# Altium schematic symbol library Schlib1.SchLib: 137 symbols (part 1 of 2)
Pins are listed as number, name and electrical type; pins without a type are passive.

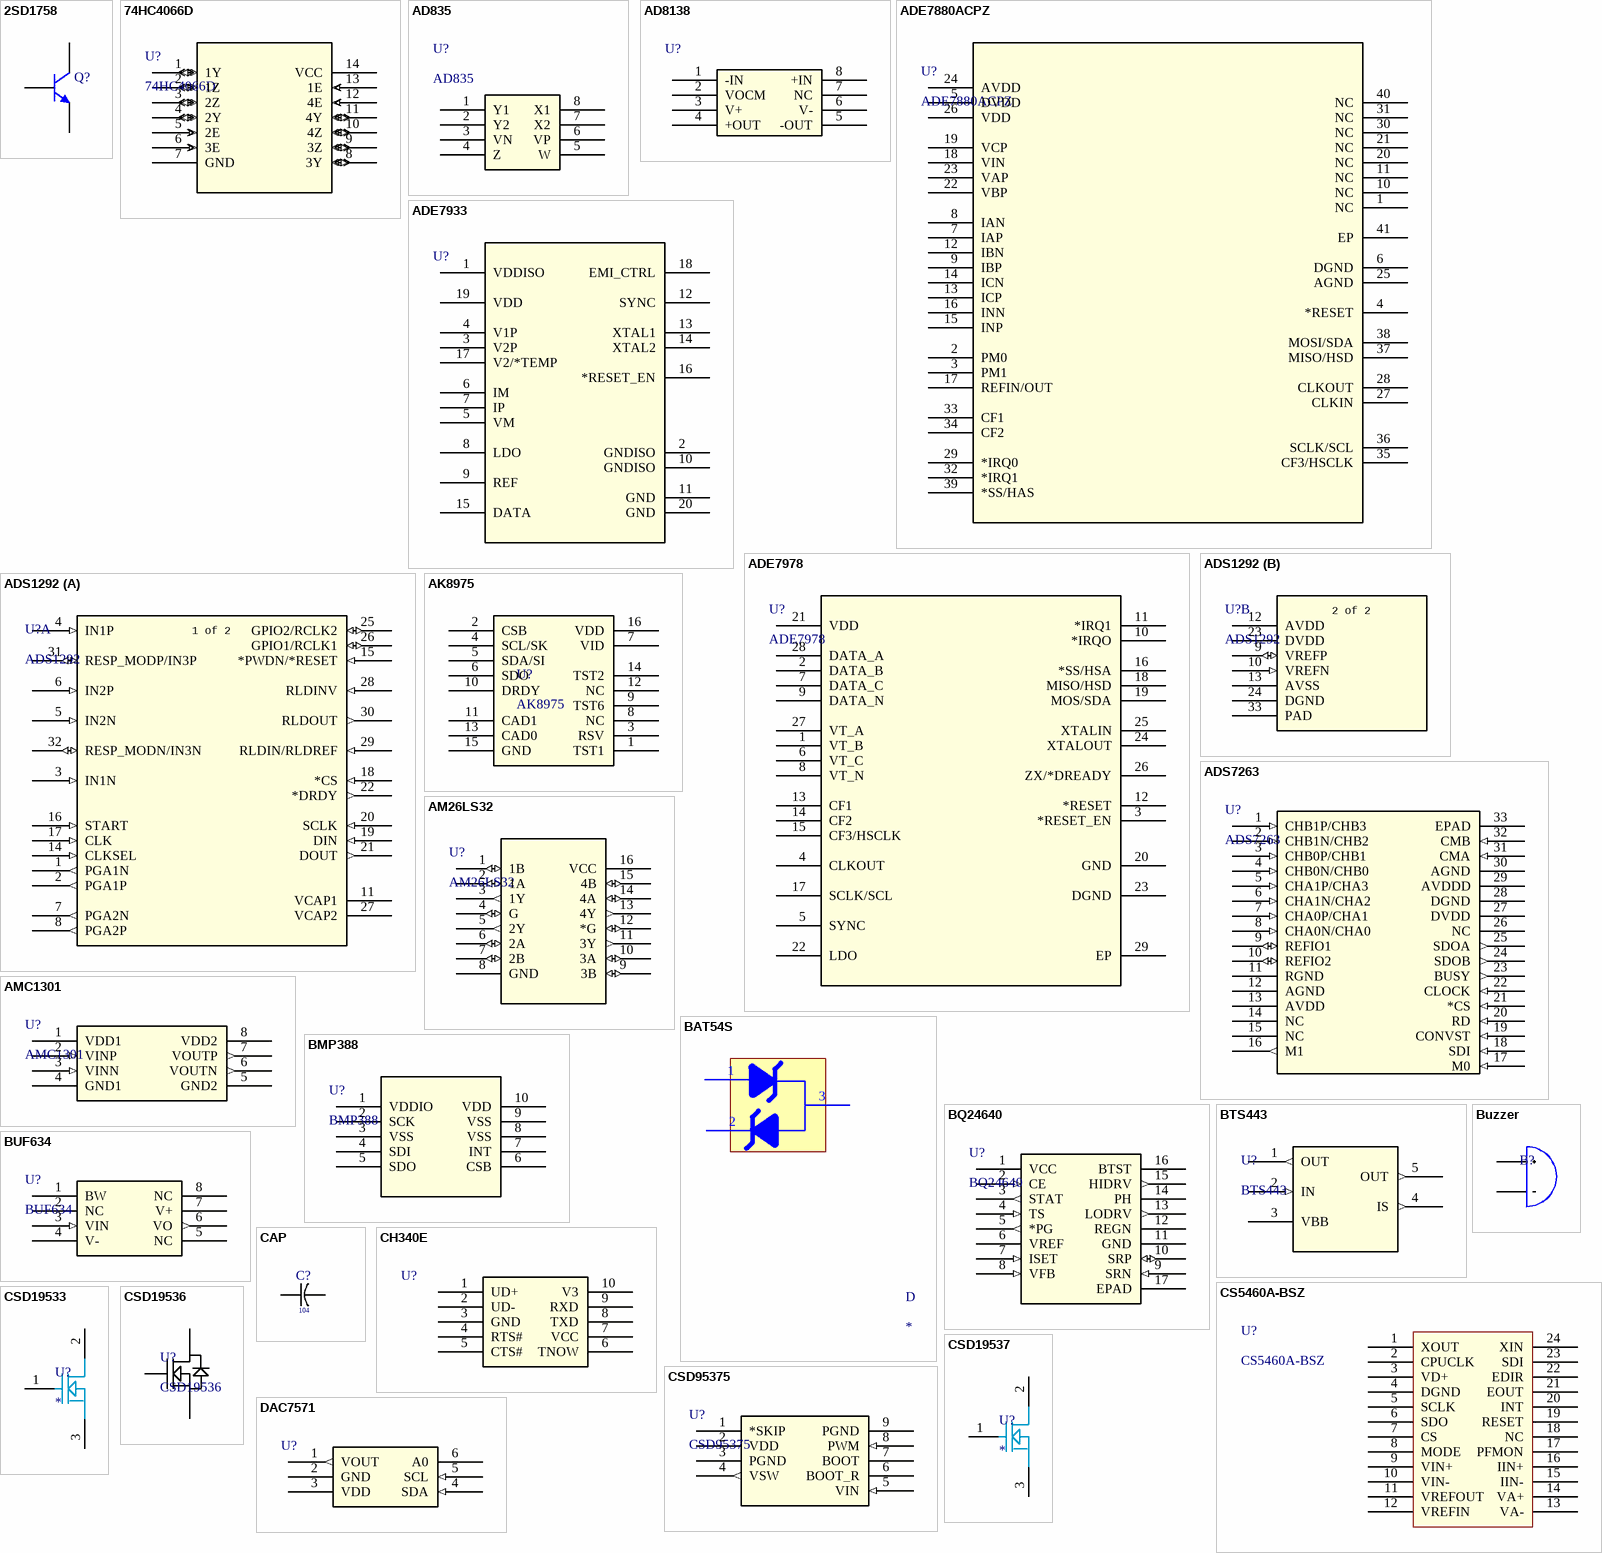
[diagram p0: symbols 2SD1758 to DAC7571]

## 2SD1758
designator Q?
10W PNP; Published: 8-Jun-2000; LatestRevisionDate: 15-Jan-2003; LatestRevisionNote: PCB Footprint 'BCY-W3/D4.7' replaced; DatasheetVersion: 1997; PackageVersion: Sep-1998; PackageReference: TO-92A; Publisher: Altium Limited; PackageDescription: TO, Flat Index; 3 In-Line, Axial Leads; Body Dia. 4.5mm; Leads 0.51 x 0.48 mm (max); ComponentLink1Description: Manufacturer Link; ComponentLink1URL: http://www.fairchildsemi.com/; ComponentLink2Description: Datasheet; ComponentLink2URL: http://www.fairchildsemi.com/ds/2N%2F2N3904.pdf
footprint TO-252-2
pins: 1 B, 2 C, 3 E

## 74HC4066D
designator U?
Vendor: Nexperia; SourceLibrary: Nexperia_2018-05-2018; Manufacturer_Part_Number: 74HC4066D; Copyright: Copyright (C) 2016 Accelerated Designs. All rights reserved; RefDes: RefDes; Type: DEV
footprint TSSOP-14
pins: 1 1Y (io), 2 1Z (io), 3 2Z (io), 4 2Y (io), 5 2E (in), 6 3E (in), 7 GND (power), 8 3Y (io), 9 3Z (io), 10 4Z (io), 11 4Y (io), 12 4E (in), 13 1E (in), 14 VCC (power)

## AD835
designator U?
乘法器; Manufacturer_Part_Number: AD835ARZ; Vendor: Vendor; Value: Value; Type: Type; RefDes: Refdes
footprint SOIC-8 (3mm)
pins: 1 Y1, 2 Y2, 3 VN (power), 4 Z, 5 W, 6 VP (power), 7 X2, 8 X1

## AD8138
designator U?
全差分运放; Manufacturer_Part_Number: AD8138ARZ; Vendor: Vendor; Value: Value; Type: Type; RefDes: Refdes
footprint SOIC-8 (3mm)
pins: 1 -IN, 2 VOCM, 3 V+ (power), 4 +OUT, 5 -OUT, 6 V- (power), 7 NC, 8 +IN

## ADE7880ACPZ
designator U?
三相电能计量; Vendor: Analog Devices Inc; Built_By: Analog Devices Inc.; Manufacturer_Part_Number: ADE7880ACPZ; Copyright: Copyright (C) 2018 Accelerated Designs. All rights reserved; RefDes: RefDes; Type: DEV; Value: Value
footprint LFCSP-40
pins: 1 NC, 2 PM0, 3 PM1, 4 *RESET, 5 DVDD, 6 DGND, 7 IAP, 8 IAN, 9 IBP, 10 NC, 11 NC, 12 IBN, 13 ICP, 14 ICN, 15 INP, 16 INN, 17 REFIN/OUT, 18 VIN, 19 VCP, 20 NC, 21 NC, 22 VBP, 23 VAP, 24 AVDD, 25 AGND, 26 VDD, 27 CLKIN, 28 CLKOUT, 29 *IRQ0, 30 NC, 31 NC, 32 *IRQ1, 33 CF1, 34 CF2, 35 CF3/HSCLK, 36 SCLK/SCL, 37 MISO/HSD, 38 MOSI/SDA, 39 *SS/HAS, 40 NC, 41 EP

## ADE7933
designator U?
隔离电压电流ADC; Manufacturer_Part_Number: ADE7933ARIZ; Vendor: Analog Devices Inc; Built_By: EMA_UL_Team; Copyright: Copyright (C) 2018 Accelerated Designs. All rights reserved; RefDes: RefDes; Type: DEV; Value: Value
footprint SOIC-20
pins: 1 VDDISO, 2 GNDISO, 3 V2P, 4 V1P, 5 VM, 6 IM, 7 IP, 8 LDO, 9 REF, 10 GNDISO, 11 GND, 12 SYNC, 13 XTAL1, 14 XTAL2, 15 DATA, 16 *RESET_EN, 17 V2/*TEMP, 18 EMI_CTRL, 19 VDD, 20 GND

## ADE7978
designator U?
三相电能计量（搭配ADE7933/32）; Manufacturer_Part_Number: ADE7978ACPZ; Vendor: Analog Devices Inc; Built_By: EMA_UL_Team; Copyright: Copyright (C) 2018 Accelerated Designs. All rights reserved; RefDes: RefDes; Type: DEV; Value: Value
footprint LFCSP-28
pins: 1 VT_B, 2 DATA_B, 3 *RESET_EN, 4 CLKOUT, 5 SYNC, 6 VT_C, 7 DATA_C, 8 VT_N, 9 DATA_N, 10 *IRQO, 11 *IRQ1, 12 *RESET, 13 CF1, 14 CF2, 15 CF3/HSCLK, 16 *SS/HSA, 17 SCLK/SCL, 18 MISO/HSD, 19 MOS/SDA, 20 GND, 21 VDD, 22 LDO, 23 DGND, 24 XTALOUT, 25 XTALIN, 26 ZX/*DREADY, 27 VT_A, 28 DATA_A, 29 EP

## ADS1292
designator U?
Manufacturer: Texas Instruments; Manufacturer_Part_Number: ADS1292RIPBS; Built_By: EMA_UL_Team; Vendor: Texas Instruments; Copyright: Copyright (C) 2018 Accelerated Designs. All rights reserved; RefDes: RefDes; Type: DEV
footprint VQFN-32
part A pins: 1 PGA1N (out), 2 PGA1P (out), 3 IN1N (in), 4 IN1P (in), 5 IN2N (in), 6 IN2P (in), 7 PGA2N (out), 8 PGA2P (out), 11 VCAP1, 14 CLKSEL (in), 15 *PWDN/*RESET (in), 16 START (in), 17 CLK (in), 18 *CS (in), 19 DIN (in), 20 SCLK (in), 21 DOUT (out), 22 *DRDY (out), 25 GPIO2/RCLK2 (io), 26 GPIO1/RCLK1 (io), 27 VCAP2, 28 RLDINV (in), 29 RLDIN/RLDREF (in), 30 RLDOUT (out), 31 RESP_MODP/IN3P (io), 32 RESP_MODN/IN3N (io)
part B pins: 9 VREFP (io), 10 VREFN (in), 12 AVDD (power), 13 AVSS (power), 23 DVDD (power), 24 DGND (power), 33 PAD (power)
part A text: 1 of 2
part B text: 2 of 2

## ADS7263
designator U?
QSPI同步ADC; Manufacturer: Texas Instruments; Manufacturer_Part_Number: ADS7263SRHBT; Built_By: EMA_UL_Team; Vendor: Texas Instruments; Copyright: Copyright (C) 2018 Accelerated Designs. All rights reserved; RefDes: RefDes; Type: DEV; Value: Value
footprint VQFN-32
pins: 1 CHB1P/CHB3 (in), 2 CHB1N/CHB2 (in), 3 CHB0P/CHB1 (in), 4 CHB0N/CHB0 (in), 5 CHA1P/CHA3 (in), 6 CHA1N/CHA2 (in), 7 CHA0P/CHA1 (in), 8 CHA0N/CHA0 (in), 9 REFIO1 (io), 10 REFIO2 (io), 11 RGND (power), 12 AGND (power), 13 AVDD (power), 14 NC, 15 NC, 16 M1 (out), 17 M0 (in), 18 SDI (in), 19 CONVST (in), 20 RD (in), 21 *CS (in), 22 CLOCK (in), 23 BUSY (out), 24 SDOB (out), 25 SDOA (out), 26 NC, 27 DVDD (power), 28 DGND (power), 29 AVDDD (power), 30 AGND (power), 31 CMA (in), 32 CMB (in), 33 EPAD (power)

## AK8975
designator U?
3线电子罗盘
footprint QFN-16 4*4
pins: 1 TST1, 2 CSB, 3 RSV, 4 SCL/SK, 5 SDA/SI, 6 SDO, 7 VID, 8 NC, 9 TST6, 10 DRDY, 11 CAD1, 12 NC, 13 CAD0, 14 TST2, 15 GND, 16 VDD

## AM26LS32
designator U?
四路差动数字接收器; Manufacturer_Part_Number: AM26LS32ACD; Vendor: Texas Instruments; Built_By: EMA_UL_Team; Copyright: Copyright (C) 2018 Accelerated Designs. All rights reserved; RefDes: RefDes; Type: DEV; Value: Value
footprint SOIC-16
pins: 1 1B (io), 2 1A (io), 3 1Y (out), 4 G (io), 5 2Y (out), 6 2A (io), 7 2B (io), 8 GND (power), 9 3B (io), 10 3A (io), 11 3Y (out), 12 *G (io), 13 4Y (out), 14 4A (io), 15 4B (io), 16 VCC (power)

## AMC1301
designator U?
∑-Δ隔离电流采样; Manufacturer_Part_Number: AMC1301QDWVRQ1; Vendor: Texas Instruments; Built_By: EMA_Jessica; Copyright: Copyright (C) 2018 Accelerated Designs. All rights reserved; RefDes: RefDes; Type: DEV; Value: Value
footprint SOIC-8 (5mm)
pins: 1 VDD1 (power), 2 VINP (in), 3 VINN (in), 4 GND1, 5 GND2, 6 VOUTN (out), 7 VOUTP (out), 8 VDD2 (power)

## BAT54S
designator D
肖特基二极管对管
footprint SOT-23-3
pins: 1 5, 2 6, 3 7

## BMP388
designator U?
气压传感器; Built_By: EMA_Matt; Vendor: Bosch; Manufacturer_Part_Number: BMP388; Copyright: Copyright (C) 2018 Accelerated Designs. All rights reserved; RefDes: RefDes; Type: DEV; Value: Value
footprint LGA-10 2*2
pins: 1 VDDIO (power), 2 SCK, 3 VSS, 4 SDI, 5 SDO, 6 CSB, 7 INT, 8 VSS, 9 VSS, 10 VDD (power)

## BQ24640
designator U?
超级电容充电器; Manufacturer: Texas Instruments; Manufacturer_Part_Number: BQ24640RVAT; Built_By: EMA_UL_Team; Vendor: Vendor; Copyright: Copyright (C) 2018 Accelerated Designs. All rights reserved; RefDes: RefDes; Type: DEV; Value: Value
footprint VQFN-16
pins: 1 VCC (power), 2 CE (in), 3 STAT (out), 4 TS (in), 5 *PG (out), 6 VREF (power), 7 ISET (in), 8 VFB (in), 9 SRN (in), 10 SRP (io), 11 GND (power), 12 REGN (power), 13 LODRV (out), 14 PH (power), 15 HIDRV (out), 16 BTST (power), 17 EPAD (power)

## BTS443
designator U?
MOS高端开关; Manufacturer_Part_Number: BTS443P; Vendor: Infineon; Built_By: EMA_UL_Team; Copyright: Copyright (C) 2018 Accelerated Designs. All rights reserved; RefDes: RefDes; Type: DEV; Value: Value
footprint TO-252-5
pins: 1 OUT (out), 2 IN (in), 3 VBB (power), 4 IS (out), 5 OUT (out)

## BUF634
designator U?
高输出跟随器; Manufacturer: Texas Instruments; Manufacturer_Part_Number: buf634_d_8; INDUSTRY_STD_PKG_TYPE: SOIC; FAMILY_NAME: FIXED GAIN; PIN_COUNT: 8; PACKAGE_DESIGNATOR: D; Datasheet_URL: http://www.ti.com/lit/gpn/BUF634; GENERIC_PART_NUMBER: BUF634; Vendor: Texas Instruments; Value: Value; Type: Type; RefDes: RefDes
footprint SOIC-8 (3mm)
pins: 1 BW, 2 NC, 3 VIN (in), 4 V- (power), 5 NC, 6 VO (out), 7 V+ (power), 8 NC

## Buzzer
designator B?  (value not drawn)
蜂鸣器
footprint Bell_7.62
footprint Buzzer-8530
pins: 1 A, 2 B

## CAP
designator C?  (value not drawn)
电容
footprint CAP0603
footprint CAP0805
footprint CAP1206
footprint CAP1210
footprint CAP1812
footprint CAP2010
footprint CAP2220
footprint CAP0402
pins: 1, 2
text: 104

## CH340E
designator U?
USB转串口; Manufacturer: Texas Instruments; Manufacturer_Part_Number: SN74LVC1G14DBVR; Built_By: EMA_UL_Team; Vendor: Texas Instruments; Copyright: Copyright (C) 2018 Accelerated Designs. All rights reserved; RefDes: RefDes; Type: DEV; Value: Value
footprint MSOP-10
pins: 1 UD+, 2 UD-, 3 GND (power), 4 RTS#, 5 CTS# (power), 6 TNOW, 7 VCC, 8 TXD, 9 RXD, 10 V3

## CS5460A-BSZ
designator U?
电能计量; Vendor: Cirrus Logic; Built_By: EMA_UL_Team; Manufacturer_Part_Number: CS5460A-BSZ; Copyright: Copyright (C) 2018 Accelerated Designs. All rights reserved; RefDes: RefDes; Type: DEV; Value: Value
footprint SSOP-24
pins: 1 XOUT, 2 CPUCLK, 3 VD+ (power), 4 DGND (power), 5 SCLK, 6 SDO, 7 CS, 8 MODE, 9 VIN+, 10 VIN-, 11 VREFOUT, 12 VREFIN, 13 VA- (power), 14 VA+ (power), 15 IIN-, 16 IIN+, 17 PFMON (power), 18 NC, 19 RESET, 20 INT, 21 EOUT, 22 EDIR, 23 SDI, 24 XIN

## CSD19533
designator U?
MOS; Manufacturer_Part_Number: CSD19537Q3; VdsMax: 100.0; IdsMax: 50.0; Rdson45: 0.025; QgTyp: 16.0; Vendor: Texas Instruments; Datasheet_URL: http://www.ti.com/lit/ds/symlink/csd19537q3.pdf; Quantity: 1; RefDes: RefDes; Type: TYPE; Value: Value
footprint VSONP-8
pins: 1 Gate, 2 Drain, 3 Source

## CSD19536
designator U?
MOS; Manufacturer_Part_Number: CSD19536KTT; Vendor: Texas Instruments; Built_By: Texas_Instrument_Team; Copyright: Copyright (C) 2018 Accelerated Designs. All rights reserved; RefDes: RefDes; Type: DEV; Value: Value
footprint TO-263-3
pins: 1 Gate, 2 Drain, 3 Source

## CSD19537
designator U?
MOS; Manufacturer_Part_Number: CSD19537Q3; VdsMax: 100.0; IdsMax: 50.0; Rdson45: 0.025; QgTyp: 16.0; Vendor: Texas Instruments; Datasheet_URL: http://www.ti.com/lit/ds/symlink/csd19537q3.pdf; Quantity: 1; RefDes: RefDes; Type: TYPE; Value: Value
footprint SON 3.3*3.3
pins: 1 Gate, 2 Drain, 3 Source

## CSD95375
designator U?
24V功率级; Manufacturer_Part_Number: CSD95375Q4M; Vendor: Texas Instruments; Built_By: EMA_UL_Team; Copyright: Copyright (C) 2018 Accelerated Designs. All rights reserved; RefDes: RefDes; Type: DEV; Value: Value
footprint VSON-8
pins: 1 *SKIP, 2 VDD (power), 3 PGND (power), 4 VSW (out), 5 VIN (in), 6 BOOT_R, 7 BOOT, 8 PWM (in), 9 PGND (power)

## DAC7571
designator U?
12位轨到轨DAC; Manufacturer: Texas Instruments; Manufacturer_Part_Number: DAC7571IDBVR; Built_By: EMA_UL_Team; Vendor: Texas Instruments; Copyright: Copyright (C) 2018 Accelerated Designs. All rights reserved; RefDes: RefDes; Type: DEV; Value: Value
footprint SOT-23-6
pins: 1 VOUT (out), 2 GND (power), 3 VDD (power), 4 SDA (in), 5 SCL (in), 6 A0

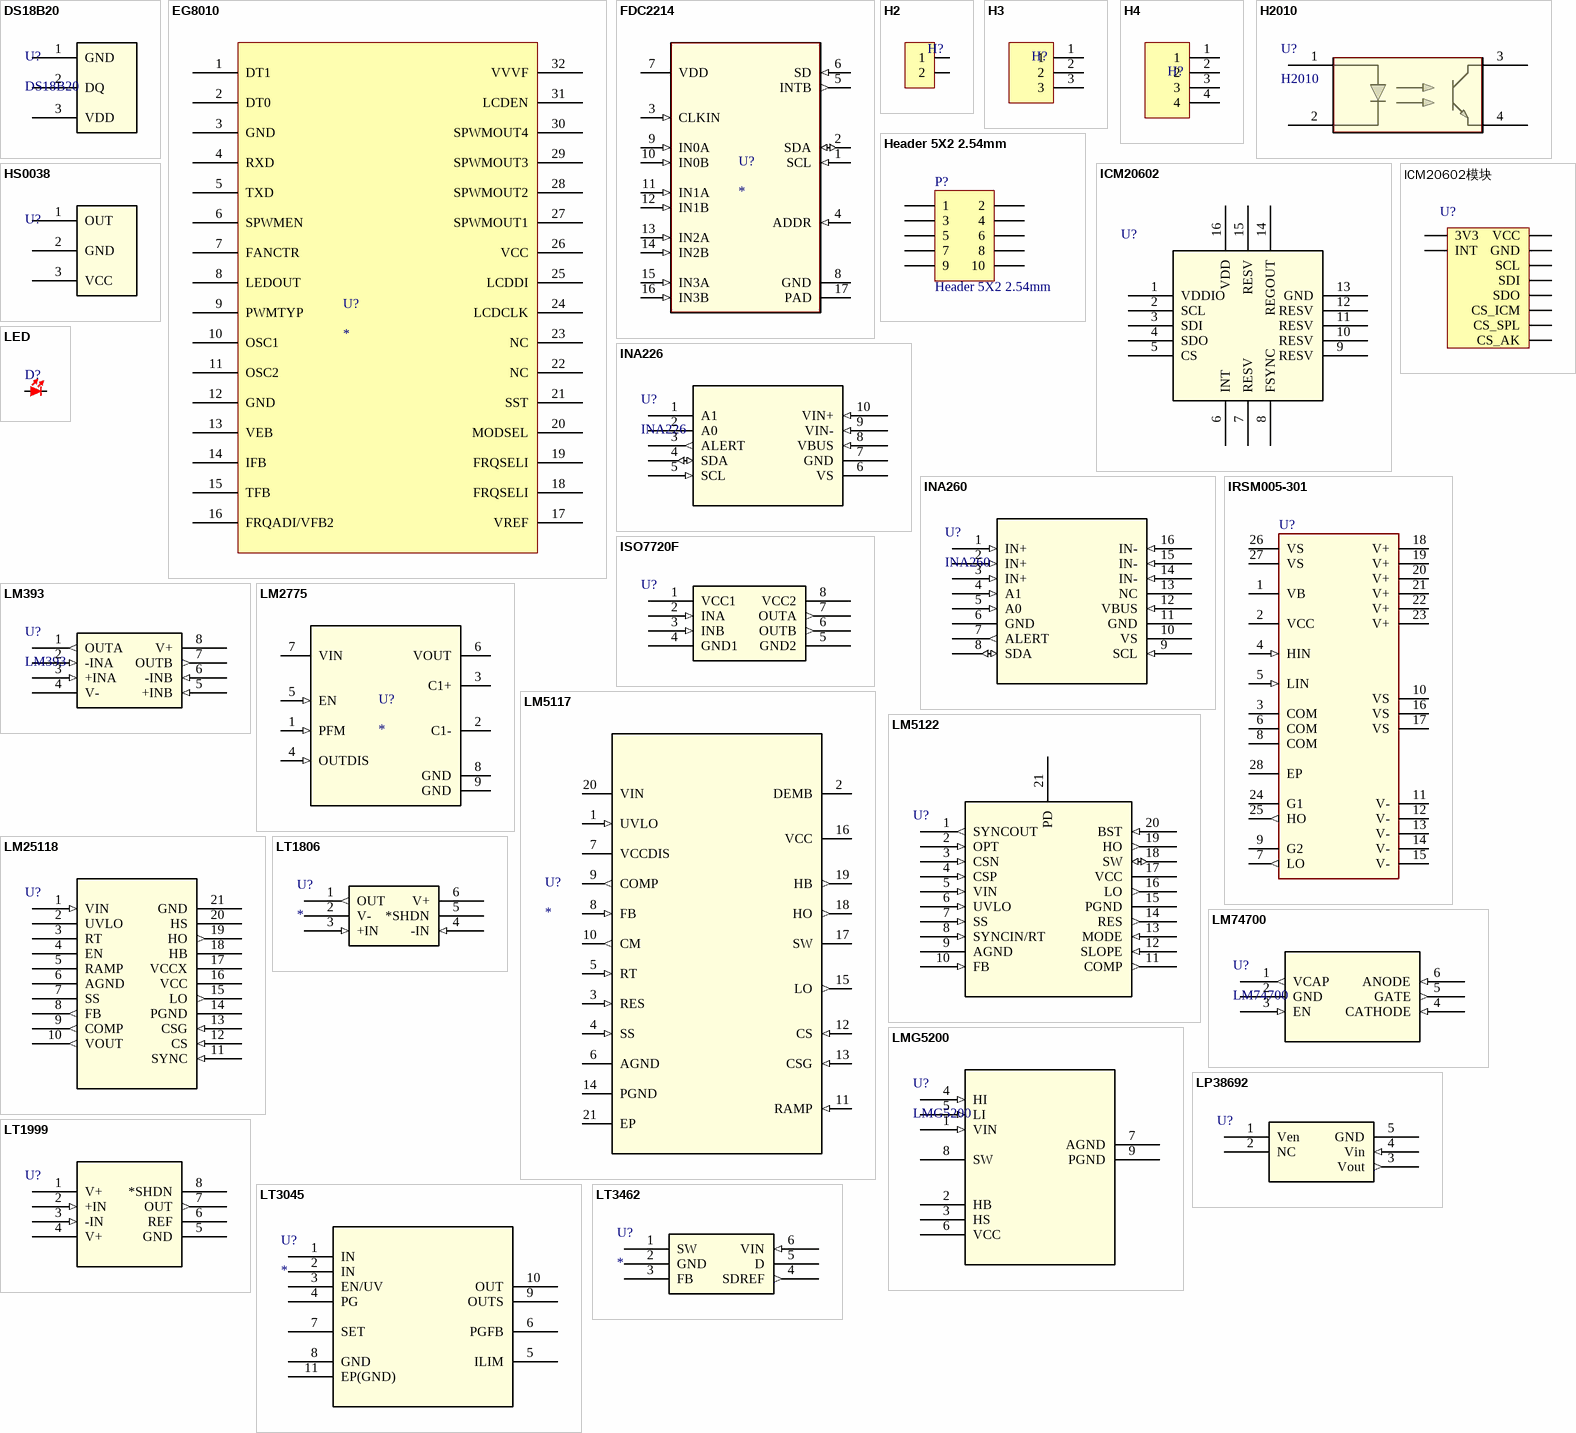
[diagram p1: symbols DS18B20 to LT3462]

## DS18B20
designator U?
温度传感器; Manufacturer_Part_Number: DS18B20+PAR; Vendor: Maxim Integrated Products; Built_By: EMA_UL_Team; Copyright: Copyright (C) 2018 Accelerated Designs. All rights reserved; RefDes: RefDes; Type: DEV; Value: Value
footprint TO-92
pins: 1 GND (power), 2 DQ, 3 VDD (power)

## EG8010
designator U?
单相逆变器控制器
footprint LQFP-32
pins: 1 DT1, 2 DT0, 3 GND, 4 RXD, 5 TXD, 6 SPWMEN, 7 FANCTR, 8 LEDOUT, 9 PWMTYP, 10 OSC1, 11 OSC2, 12 GND, 13 VEB, 14 IFB, 15 TFB, 16 FRQADI/VFB2, 17 VREF, 18 FRQSELI, 19 FRQSELI, 20 MODSEL, 21 SST, 22 NC, 23 NC, 24 LCDCLK, 25 LCDDI, 26 VCC, 27 SPWMOUT1, 28 SPWMOUT2, 29 SPWMOUT3, 30 SPWMOUT4, 31 LCDEN, 32 VVVF

## FDC2214
designator U?
电容测量; PartNumber: FDC2214RGHR; Manufacturer: Texas Instruments; CompType: IC; PIN_COUNT: 17; Application_BuildNumber: *; Alternate_PartNumber: FDC2214RGHR; PackageReference: RGH0016A; MountType: SMT; RoHS: Y; RefDes: RefDes; TYPE: TYPE; Value: Value
footprint WQFN-16
pins: 1 SCL (in), 2 SDA (io), 3 CLKIN (in), 4 ADDR (in), 5 INTB (out), 6 SD (in), 7 VDD (power), 8 GND (power), 9 IN0A (in), 10 IN0B (in), 11 IN1A (in), 12 IN1B (in), 13 IN2A (in), 14 IN2B (in), 15 IN3A (in), 16 IN3B (in), 17 PAD (power)

## H2
designator H?  (value not drawn)
footprint 15EDGVM-2P
footprint 15EDGRM-2P
footprint KF301-2
pins: 1, 2

## H3
designator H?  (value not drawn)
footprint 15EDGVM-3P
footprint 15EDGRM-3P
pins: 1, 2, 3

## H4
designator H?  (value not drawn)
footprint 15EDGVM-4P
footprint 15EDGRM-4P
pins: 1, 2, 3, 4

## H2010
designator U?
槽型光耦; Manufacturer_Part_Number: TLP291(SE; Vendor: Toshiba; Copyright: Copyright (C) 2018 Accelerated Designs. All rights reserved; RefDes: RefDes; Type: DEV; Value: Value
footprint H2010
pins: 1, 2, 3 C, 4

## Header 5X2 2.54mm
designator P?
LatestRevisionDate: 17-Jul-2002; LatestRevisionNote: Re-released for DXP Platform.; Publisher: Altium Limited
footprint H_DC3_10
pins: 1, 2, 3, 4, 5, 6, 7, 8, 9, 10

## HS0038
designator U?
红外接受头; Manufacturer_Part_Number: DS18B20+PAR; Vendor: Maxim Integrated Products; Built_By: EMA_UL_Team; Copyright: Copyright (C) 2018 Accelerated Designs. All rights reserved; RefDes: RefDes; Type: DEV; Value: Value
footprint TO-92
pins: 1 OUT (power), 2 GND, 3 VCC (power)

## ICM20602
designator U?
IMU; Manufacturer_Part_Number: AD835ARZ; Vendor: Vendor; Value: Value; Type: Type; RefDes: Refdes
footprint LGA-16
pins: 1 VDDIO, 2 SCL, 3 SDI (power), 4 SDO, 5 CS, 6 INT (power), 7 RESV, 8 FSYNC, 9 RESV, 10 RESV, 11 RESV, 12 RESV, 13 GND, 14 REGOUT, 15 RESV, 16 VDD

## ICM20602模块
designator U?
footprint ICM20602模块
pins: 1 VCC, 2 GND, 3 SCL, 4 SDI, 5 SDO, 6 CS_ICM, 7 CS_SPL, 8 CS_AK, 9 3V3, 10 INT

## INA226
designator U?
直流功率计量; Manufacturer: Texas Instruments; Manufacturer_Part_Number: ina226_dgs_10; INDUSTRY_STD_PKG_TYPE: MSOP; FAMILY_NAME: CURRENT SHUNT MONITOR; PIN_COUNT: 10; PACKAGE_DESIGNATOR: DGS; Datasheet_URL: http://www.ti.com/lit/gpn/INA226; GENERIC_PART_NUMBER: INA226; Vendor: Texas Instruments; Value: Value; Type: Type; RefDes: RefDes
footprint MSOP-10
pins: 1 A1, 2 A0, 3 ALERT (out), 4 SDA (io), 5 SCL (in), 6 VS (power), 7 GND (power), 8 VBUS (in), 9 VIN- (in), 10 VIN+ (in)

## INA260
designator U?
直流功率计量; Manufacturer_Part_Number: INA260AIPW; Vendor: Texas Instruments; Built_By: EMA_Jessica; Copyright: Copyright (C) 2018 Accelerated Designs. All rights reserved; RefDes: RefDes; Type: DEV; Value: Value
footprint TSSOP-16
pins: 1 IN+ (in), 2 IN+ (in), 3 IN+ (in), 4 A1 (in), 5 A0 (in), 6 GND (power), 7 ALERT (out), 8 SDA (io), 9 SCL (in), 10 VS (power), 11 GND (power), 12 VBUS (in), 13 NC, 14 IN- (in), 15 IN- (in), 16 IN- (in)

## IRSM005-301
designator U?  (value not drawn)
全桥功率级; ManufacturerPartNumber: IRSM005-301MH; Manufacturer: Infineon Technologies; PackageReference: PQFN 7x8mm
footprint IFX-PQFN-7x8 (PQFN, 28 Pins, 7mm L X 8mm W X 1mm H body)
pins: 1 VB (power) "High Side Floating Supply (+ve Bootstrap Cap Connection)", 2 VCC (power) "15V Gate Drive Supply", 3 COM (power) "Low Side Gate Driver Return", 4 HIN (in) "Logic Input for High Side (Active High)", 5 LIN (in) "Logic Input for Low Side (Active High)", 6 COM (power) "Low Side Gate Driver Return", 7 LO (out) "Low Side Gate Drive Output", 8 COM (power) "Low Side Gate Driver Return", 9 G2 "Low Side FET Gate", 10 VS (power) "Phase Output", 11 V- (power) "Low Side Source Connection", 12 V- (power) "Low Side Source Connection", 13 V- (power) "Low Side Source Connection", 14 V- (power) "Low Side Source Connection", 15 V- (power) "Low Side Source Connection", 16 VS (power) "Phase Output", 17 VS (power) "Phase Output", 18 V+ (power) "DC Bus", 19 V+ (power) "DC Bus", 20 V+ (power) "DC Bus", 21 V+ (power) "DC Bus", 22 V+ (power) "DC Bus", 23 V+ (power) "DC Bus", 24 G1 "High Side FET Gate", 25 HO (out) "High Side Gate Drive Output", 26 VS (power) "Phase Output (-ve of Bootstrap Cap Connection)", 27 VS (power) "Phase Output (-ve of Bootstrap Cap Connection)", 28 EP (power) "Exposed Pad (connected to COM for better electrical performance)"

## ISO7720F
designator U?
数字信号隔离; Manufacturer_Part_Number: ISO7720FQDQ1; Vendor: Texas Instruments; Built_By: EMA_Jessica; Copyright: Copyright (C) 2018 Accelerated Designs. All rights reserved; RefDes: RefDes; Type: DEV; Value: Value
footprint SOIC-8 (3mm)
pins: 1 VCC1 (power), 2 INA (in), 3 INB (in), 4 GND1 (power), 5 GND2 (power), 6 OUTB (out), 7 OUTA (out), 8 VCC2 (power)

## LED
designator D?  (value not drawn)
footprint LED_0805
pins: 1, 2

## LM393
designator U?
开漏输出比较器; Manufacturer_Part_Number: LM393M/NOPB; Vendor: Texas Instruments; Built_By: EMA_UL_Team; Copyright: Copyright (C) 2018 Accelerated Designs. All rights reserved; RefDes: RefDes; Type: DEV; Value: Value
footprint SOIC-8 (3mm)
pins: 1 OUTA (out), 2 -INA (in), 3 +INA (in), 4 V-, 5 +INB (in), 6 -INB (in), 7 OUTB (out), 8 V+

## LM2775
designator U?
5V升压电荷泵; PartNumber: LM2775QDSGRQ1; Manufacturer: Texas Instruments; RefDes: RefDes; Type: DEV; Value: Value; Copyright: Copyright (C) 2018 Accelerated Designs. All rights reserved
footprint WSON-8
pins: 1 PFM (in), 2 C1- (power), 3 C1+ (power), 4 OUTDIS (in), 5 EN (in), 6 VOUT (power), 7 VIN (power), 8 GND (power), 9 GND (power)

## LM5117
designator U?
BUCK PWM控制器
footprint HSSOP-20
pins: 1 UVLO (in), 2 DEMB, 3 RES (in), 4 SS (in), 5 RT (in), 6 AGND (power), 7 VCCDIS, 8 FB (in), 9 COMP (out), 10 CM (out), 11 RAMP (in), 12 CS (in), 13 CSG (in), 14 PGND (power), 15 LO (out), 16 VCC (power), 17 SW (power), 18 HO (out), 19 HB (out), 20 VIN (power), 21 EP

## LM5122
designator U?
BOOST PWM控制器; Manufacturer_Part_Number: LM5122MH/NOPB; Vendor: Texas Instruments; Built_By: EMA_UL_Team; Copyright: Copyright (C) 2018 Accelerated Designs. All rights reserved; RefDes: RefDes; Type: DEV; Value: Value
footprint HTSSOP-20
pins: 1 SYNCOUT (out), 2 OPT (in), 3 CSN (in), 4 CSP (in), 5 VIN (in), 6 UVLO (in), 7 SS (in), 8 SYNCIN/RT (in), 9 AGND (power), 10 FB (in), 11 COMP (out), 12 SLOPE (in), 13 MODE (in), 14 RES (out), 15 PGND (power), 16 LO (out), 17 VCC (power), 18 SW (io), 19 HO (out), 20 BST (in), 21 PD

## LM25118
designator U?
BUCK-BOOST PWM控制器; Manufacturer: Texas Instruments; Manufacturer_Part_Number: LM25118MH/NOPB; Built_By: EMA_UL_Team; Vendor: Texas Instruments; Copyright: Copyright (C) 2018 Accelerated Designs. All rights reserved; RefDes: RefDes; Type: DEV; Value: Value
footprint HTSSOP-20
pins: 1 VIN (in), 2 UVLO, 3 RT, 4 EN, 5 RAMP, 6 AGND (power), 7 SS, 8 FB (out), 9 COMP (out), 10 VOUT (out), 11 SYNC (in), 12 CS (in), 13 CSG (in), 14 PGND (power), 15 LO (out), 16 VCC (power), 17 VCCX (power), 18 HB, 19 HO (out), 20 HS, 21 GND

## LM74700
designator U?
理想二极管驱动器; Manufacturer_Part_Number: LM74700QDBVTQ1; Vendor: Texas Instruments; Copyright: Copyright (C) 2016 Accelerated Designs. All rights reserved; RefDes: RefDes; Type: DEV; Value: Value
footprint SOT-23-6
pins: 1 VCAP (out), 2 GND (power), 3 EN (in), 4 CATHODE (in), 5 GATE (out), 6 ANODE (in)

## LMG5200
designator U?
氮化镓功率级; Manufacturer_Part_Number: LMG5200MOFT; Vendor: Texas Instruments; Copyright: Copyright (C) 2018 Accelerated Designs. All rights reserved; RefDes: RefDes; Type: DEV; Value: Value
footprint QFM-9
pins: 1 VIN (in), 2 HB (power), 3 HS (power), 4 HI (in), 5 LI (in), 6 VCC (power), 7 AGND (power), 8 SW, 9 PGND (power)

## LP38692
designator U?
1A输出LDO; Manufacturer_Part_Number: LP38692MP-3.3; Vendor: Texas Instruments; Built_By: EMA_UL_Team; Copyright: Copyright (C) 2018 Accelerated Designs. All rights reserved; RefDes: RefDes; Type: DEV; Value: Value
footprint SOT-223-5
pins: 1 Ven, 2 NC, 3 Vout (out), 4 Vin (in), 5 GND

## LT1806
designator U?
325MHz、单通道、轨至轨输入和输出、低失真、低噪声精准运算放大器; Manufacturer_Part_Number: lt1806cs6#pbf; Vendor: LinearTech; Value: Value; Type: Type; RefDes: RefDes
footprint TSOT-23-6
pins: 1 OUT (out), 2 V- (power), 3 +IN (in), 4 -IN (in), 5 *SHDN, 6 V+ (power)

## LT1999
designator U?
Manufacturer_Part_Number: LT1999MPMS8-10#PBF; Vendor: Analog Devices Inc; Built_By: EMA_Jessica; SourceLibrary: Analog_Devices_2020-01-02; Copyright: Copyright (C) 2018 Accelerated Designs. All rights reserved; RefDes: RefDes; Type: DEV
footprint SOIC-8 (3mm)
pins: 1 V+ (power), 2 +IN (in), 3 -IN (in), 4 V+ (power), 5 GND, 6 REF, 7 OUT (out), 8 *SHDN

## LT3045
designator U?
低噪声LDO; Value: Value; Type: Type; RefDes: RefDes
footprint DFN-10
pins: 1 IN, 2 IN, 3 EN/UV, 4 PG, 5 ILIM, 6 PGFB, 7 SET, 8 GND, 9 OUTS, 10 OUT, 11 EP(GND)

## LT3462
designator U?
反极性调制器; Manufacturer_Part_Number: lt3462aes6; Vendor: Linear Technology; Value: Value; Type: Type; RefDes: RefDes
footprint TSOT-23-6
pins: 1 SW, 2 GND (power), 3 FB, 4 SDREF (out), 5 D, 6 VIN (in)

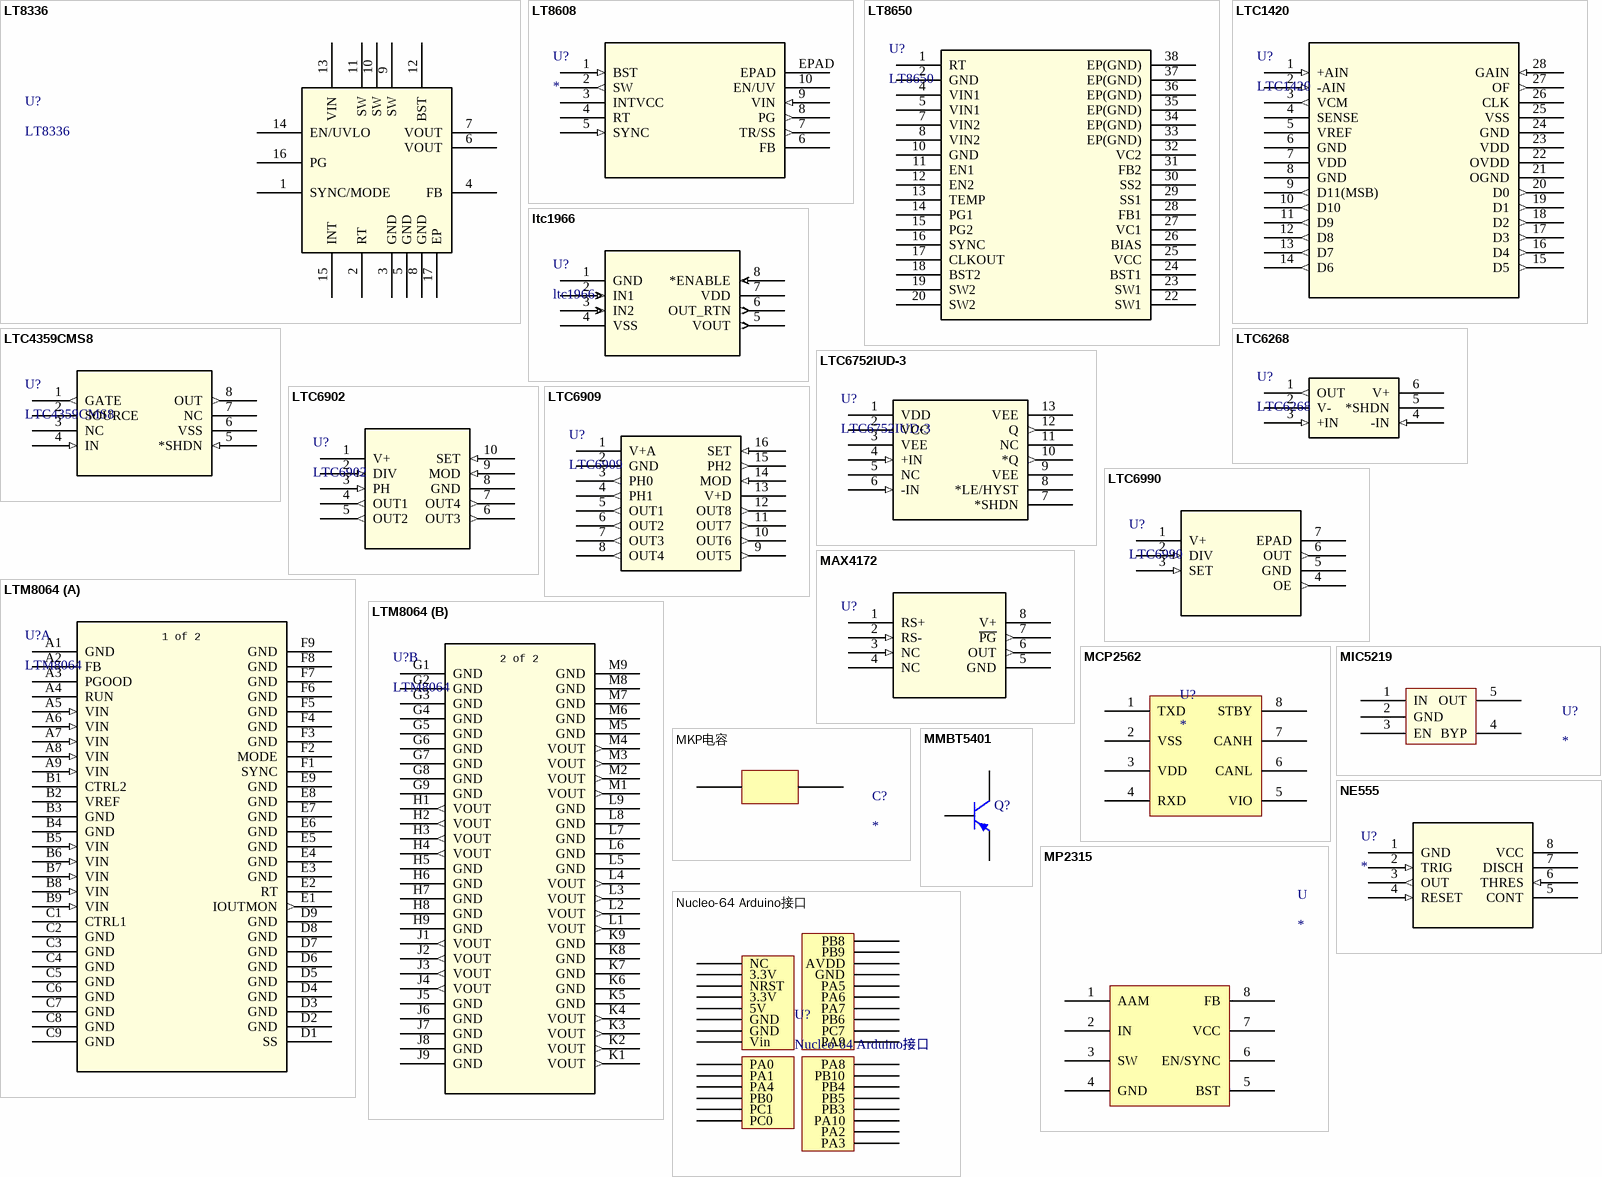
[diagram p2: symbols LT8336 to Nucleo-64 Arduino接口]

## LT8336
designator U?
BOOST; Manufacturer_Part_Number: INA260AIPW; Vendor: Texas Instruments; Built_By: EMA_Jessica; Copyright: Copyright (C) 2018 Accelerated Designs. All rights reserved; RefDes: RefDes; Type: DEV; Value: Value
footprint LQFN-16 3*3
pins: 1 SYNC/MODE, 2 RT, 3 GND, 4 FB, 5 GND, 6 VOUT (power), 7 VOUT, 8 GND, 9 SW, 10 SW (power), 11 SW (power), 12 BST, 13 VIN, 14 EN/UVLO, 15 INT, 16 PG, 17 EP

## LT8608
designator U?
低EMI同步BUCK; Manufacturer_Part_Number: LT8608IMSE#PBF; Built_By: EMA_Jessica; Vendor: Analog Devices Inc; C: Copyright (C) 2018 Accelerated Designs. All rights reserved; Copyright: Copyright (C) 2016 Accelerated Designs. All rights reserved; RefDes: RefDes; Type: DEV; Value: Value
footprint MSOP-10（with cooler）
pins: 1 BST (in), 2 SW (out), 3 INTVCC (power), 4 RT, 5 SYNC (in), 6 FB, 7 TR/SS (out), 8 PG (out), 9 VIN (in), 10 EN/UV, EPAD

## LT8650
designator U?
多相交错并联电源; Value: Value; Type: Type; RefDes: RefDes
footprint QFN32-28
pins: 1 RT, 2 GND, 4 VIN1, 5 VIN1, 7 VIN2, 8 VIN2, 10 GND, 11 EN1, 12 EN2, 13 TEMP, 14 PG1, 15 PG2, 16 SYNC, 17 CLKOUT, 18 BST2, 19 SW2, 20 SW2, 22 SW1, 23 SW1, 24 BST1, 25 VCC, 26 BIAS, 27 VC1, 28 FB1, 29 SS1, 30 SS2, 31 FB2, 32 VC2, 33 EP(GND), 34 EP(GND), 35 EP(GND), 36 EP(GND), 37 EP(GND), 38 EP(GND)

## LTC1420
designator U?
10M 真12位ADC; Manufacturer_Part_Number: LTC1420CGN#PBF; Vendor: Linear Technology; Built_By: EMA_UL_Team; Copyright: Copyright (C) 2018 Accelerated Designs. All rights reserved; RefDes: RefDes; Type: DEV; Value: Value
footprint SSOP-28
pins: 1 +AIN (in), 2 -AIN (in), 3 VCM (out), 4 SENSE, 5 VREF (power), 6 GND (power), 7 VDD (power), 8 GND (power), 9 D11(MSB) (out), 10 D10 (out), 11 D9 (out), 12 D8 (out), 13 D7 (out), 14 D6 (out), 15 D5 (out), 16 D4 (out), 17 D3 (out), 18 D2 (out), 19 D1 (out), 20 D0 (out), 21 OGND (power), 22 OVDD (power), 23 VDD (power), 24 GND (power), 25 VSS (power), 26 CLK, 27 OF (out), 28 GAIN (in)

## ltc1966
designator U?
Manufacturer_Part_Number: ltc1966ims8#pbf; Vendor: Linear Technology; Built_By: EMA_UL_Team; SourceLibrary: LinearTech_2016_03_08; Copyright: Copyright (C) 2018 Accelerated Designs. All rights reserved; RefDes: RefDes; Type: DEV
footprint MSOP-8
pins: 1 GND (power), 2 IN1 (in), 3 IN2 (in), 4 VSS (power), 5 VOUT (out), 6 OUT_RTN (out), 7 VDD (power), 8 *ENABLE (in)

## LTC4359CMS8
designator U?
Manufacturer_Part_Number: LTC4359CMS8#PBF; Vendor: Linear Technology; Built_By: EMA_UL_Team; SourceLibrary: LinearTech_2016-05-13_6; Copyright: Copyright (C) 2018 Accelerated Designs. All rights reserved; RefDes: RefDes; Type: DEV
footprint MSOP-8
pins: 1 GATE (out), 2 SOURCE, 3 NC, 4 IN (in), 5 *SHDN (in), 6 VSS (power), 7 NC, 8 OUT (out)

## LTC6268
designator U?
500M FET运放; Manufacturer_Part_Number: ltc6268is6#pbf; Vendor: Linear Technology; Value: Value; Type: Type; RefDes: RefDes
footprint TSOT-23-6
pins: 1 OUT (out), 2 V- (power), 3 +IN (in), 4 -IN (in), 5 *SHDN, 6 V+ (power)

## LTC6752IUD-3
designator U?
高速比较器; Manufacturer_Part_Number: ltc6752iud-3#trpbf; Vendor: Linear Technology; Value: Value; Type: Type; RefDes: RefDes
footprint QFN-12 3*3（with cooling）
pins: 1 VDD (power), 2 VCC (power), 3 VEE (power), 4 +IN (in), 5 NC, 6 -IN (in), 7 *SHDN, 8 *LE/HYST, 9 VEE (power), 10 *Q (out), 11 NC, 12 Q (out), 13 VEE (power)

## LTC6902
designator U?
Manufacturer_Part_Number: LTC6902CMS#PBF; Vendor: Linear Technology; Built_By: EMA_UL_Team; SourceLibrary: LinearTech_2016_03_08; Copyright: Copyright (C) 2018 Accelerated Designs. All rights reserved; RefDes: RefDes; Type: DEV
footprint MSOP-10
pins: 1 V+ (power), 2 DIV (in), 3 PH (in), 4 OUT1 (out), 5 OUT2 (out), 6 OUT3 (out), 7 OUT4 (out), 8 GND (power), 9 MOD (in), 10 SET (in)

## LTC6909
designator U?
分频器; Manufacturer_Part_Number: ltc6909ims#pbf; Vendor: Linear Technology; Value: Value; Type: Type; RefDes: RefDes
footprint MSOP-16
pins: 1 V+A (power), 2 GND (power), 3 PH0 (out), 4 PH1 (out), 5 OUT1 (out), 6 OUT2 (out), 7 OUT3 (out), 8 OUT4 (out), 9 OUT5 (out), 10 OUT6 (out), 11 OUT7 (out), 12 OUT8 (out), 13 V+D (power), 14 MOD (in), 15 PH2 (out), 16 SET (in)

## LTC6990
designator U?
硅振荡器; Manufacturer_Part_Number: LTC6990HDCB#TRPBF; Vendor: Linear Technology; Built_By: EMA_UL_Team; SourceLibrary: LinearTech_2016-09-19_10; Copyright: Copyright (C) 2018 Accelerated Designs. All rights reserved; RefDes: RefDes; Type: DEV
footprint DFN-6
pins: 1 V+ (power), 2 DIV (in), 3 SET (in), 4 OE (out), 5 GND (power), 6 OUT (out), 7 EPAD

## LTM8064
designator U?
Manufacturer_Part_Number: LTM8064IY; Built_By: EMA_Jessica; Vendor: Analog Devices Inc; SourceLibrary: Analog_Devices_2018-09-28; Copyright: Copyright (C) 2016 Accelerated Designs. All rights reserved; RefDes: RefDes; Type: DEV; Value: Value
footprint BGA108_16X11P9
part A pins: A1 GND (power), A2 FB, A3 PGOOD, A4 RUN, A5 VIN (in), A6 VIN (in), A7 VIN (in), A8 VIN (in), A9 VIN (in), B1 CTRL2, B2 VREF (power), B3 GND (power), B4 GND (power), B5 VIN (in), B6 VIN (in), B7 VIN (in), B8 VIN (in), B9 VIN (in), C1 CTRL1, C2 GND (power), C3 GND (power), C4 GND (power), C5 GND (power), C6 GND (power), C7 GND (power), C8 GND (power), C9 GND (power), D1 SS, D2 GND (power), D3 GND (power), D4 GND (power), D5 GND (power), D6 GND (power), D7 GND (power), D8 GND (power), D9 GND (power), E1 IOUTMON (out), E2 RT, E3 GND (power), E4 GND (power), E5 GND (power), E6 GND (power), E7 GND (power), E8 GND (power), E9 GND (power), F1 SYNC, F2 MODE, F3 GND (power), F4 GND (power), F5 GND (power), F6 GND (power), F7 GND (power), F8 GND (power), F9 GND (power)
part B pins: G1 GND (power), G2 GND (power), G3 GND (power), G4 GND (power), G5 GND (power), G6 GND (power), G7 GND (power), G8 GND (power), G9 GND (power), H1 VOUT (out), H2 VOUT (out), H3 VOUT (out), H4 VOUT (out), H5 GND (power), H6 GND (power), H7 GND (power), H8 GND (power), H9 GND (power), J1 VOUT (out), J2 VOUT (out), J3 VOUT (out), J4 VOUT (out), J5 GND (power), J6 GND (power), J7 GND (power), J8 GND (power), J9 GND (power), K1 VOUT (out), K2 VOUT (out), K3 VOUT (out), K4 VOUT (out), K5 GND (power), K6 GND (power), K7 GND (power), K8 GND (power), K9 GND (power), L1 VOUT (out), L2 VOUT (out), L3 VOUT (out), L4 VOUT (out), L5 GND (power), L6 GND (power), L7 GND (power), L8 GND (power), L9 GND (power), M1 VOUT (out), M2 VOUT (out), M3 VOUT (out), M4 VOUT (out), M5 GND (power), M6 GND (power), M7 GND (power), M8 GND (power), M9 GND (power)
part A text: 1 of 2
part B text: 2 of 2

## MAX4172
designator U?
直流电流采样; Manufacturer_Part_Number: ISO7720FQDQ1; Vendor: Texas Instruments; Built_By: EMA_Jessica; Copyright: Copyright (C) 2018 Accelerated Designs. All rights reserved; RefDes: RefDes; Type: DEV; Value: Value
footprint SOIC-8 (3mm)
pins: 1 RS+ (power), 2 RS- (in), 3 NC (in), 4 NC (power), 5 GND (power), 6 OUT (out), 7 ~{PG} (out), 8 V+ (power)

## MCP2562
designator U?
CAN驱动器
footprint SOIC-8 (3mm)
pins: 1 TXD, 2 VSS, 3 VDD, 4 RXD, 5 VIO, 6 CANL, 7 CANH, 8 STBY

## MIC5219
designator U?
LDO
footprint SOT-23-5
pins: 1 IN, 2 GND, 3 EN, 4 BYP, 5 OUT

## MKP电容
designator C?
footprint MKP
pins: 1, 2

## MMBT5401
designator Q?
Published: 8-Jun-2000; LatestRevisionDate: 15-Jan-2003; LatestRevisionNote: PCB Footprint 'BCY-W3/D4.7' replaced; DatasheetVersion: 1997; PackageVersion: Sep-1998; PackageReference: TO-92A; Publisher: Altium Limited; PackageDescription: TO, Flat Index; 3 In-Line, Axial Leads; Body Dia. 4.5mm; Leads 0.51 x 0.48 mm (max); ComponentLink1Description: Manufacturer Link; ComponentLink1URL: http://www.fairchildsemi.com/; ComponentLink2Description: Datasheet; ComponentLink2URL: http://www.fairchildsemi.com/ds/2N%2F2N3904.pdf
footprint SOT-23-3
pins: 1 B, 2 E, 3 C

## MP2315
designator U
同步BUCK
footprint TSOT-23-8
pins: 1 AAM, 2 IN, 3 SW, 4 GND, 5 BST, 6 EN/SYNC, 7 VCC, 8 FB

## NE555
designator U?
Manufacturer: Texas Instruments; GENERIC_PART_NUMBER: NE555; INDUSTRY_STD_PKG_TYPE: SOIC; FAMILY_NAME: TIMERS(CT); PIN_COUNT: 8; PACKAGE_DESIGNATOR: D; Datasheet_URL: http://www.ti.com/lit/gpn/NE555; Copyright: Copyright (C) 2018 Accelerated Designs. All rights reserved; RefDes: RefDes; Type: DEV
footprint SOIC-8 (3mm)
pins: 1 GND (power), 2 TRIG (in), 3 OUT (out), 4 RESET (in), 5 CONT, 6 THRES (in), 7 DISCH, 8 VCC (power)

## Nucleo-64 Arduino接口
designator U?
footprint Nucleo-64 Arduino接口
pins: 1 NC, 2 3.3V, 3 NRST, 4 3.3V, 5 5V, 6 GND, 7 GND, 8 Vin, 9 PA0, 10 PA1, 11 PA4, 12 PB0, 13 PC1, 14 PC0, 15 PA3, 16 PA2, 17 PA10, 18 PB3, 19 PB5, 20 PB4, 21 PB10, 22 PA8, 23 PA9, 24 PC7, 25 PB6, 26 PA7, 27 PA6, 28 PA5, 29 GND, 30 AVDD, 31 PB9, 32 PB8

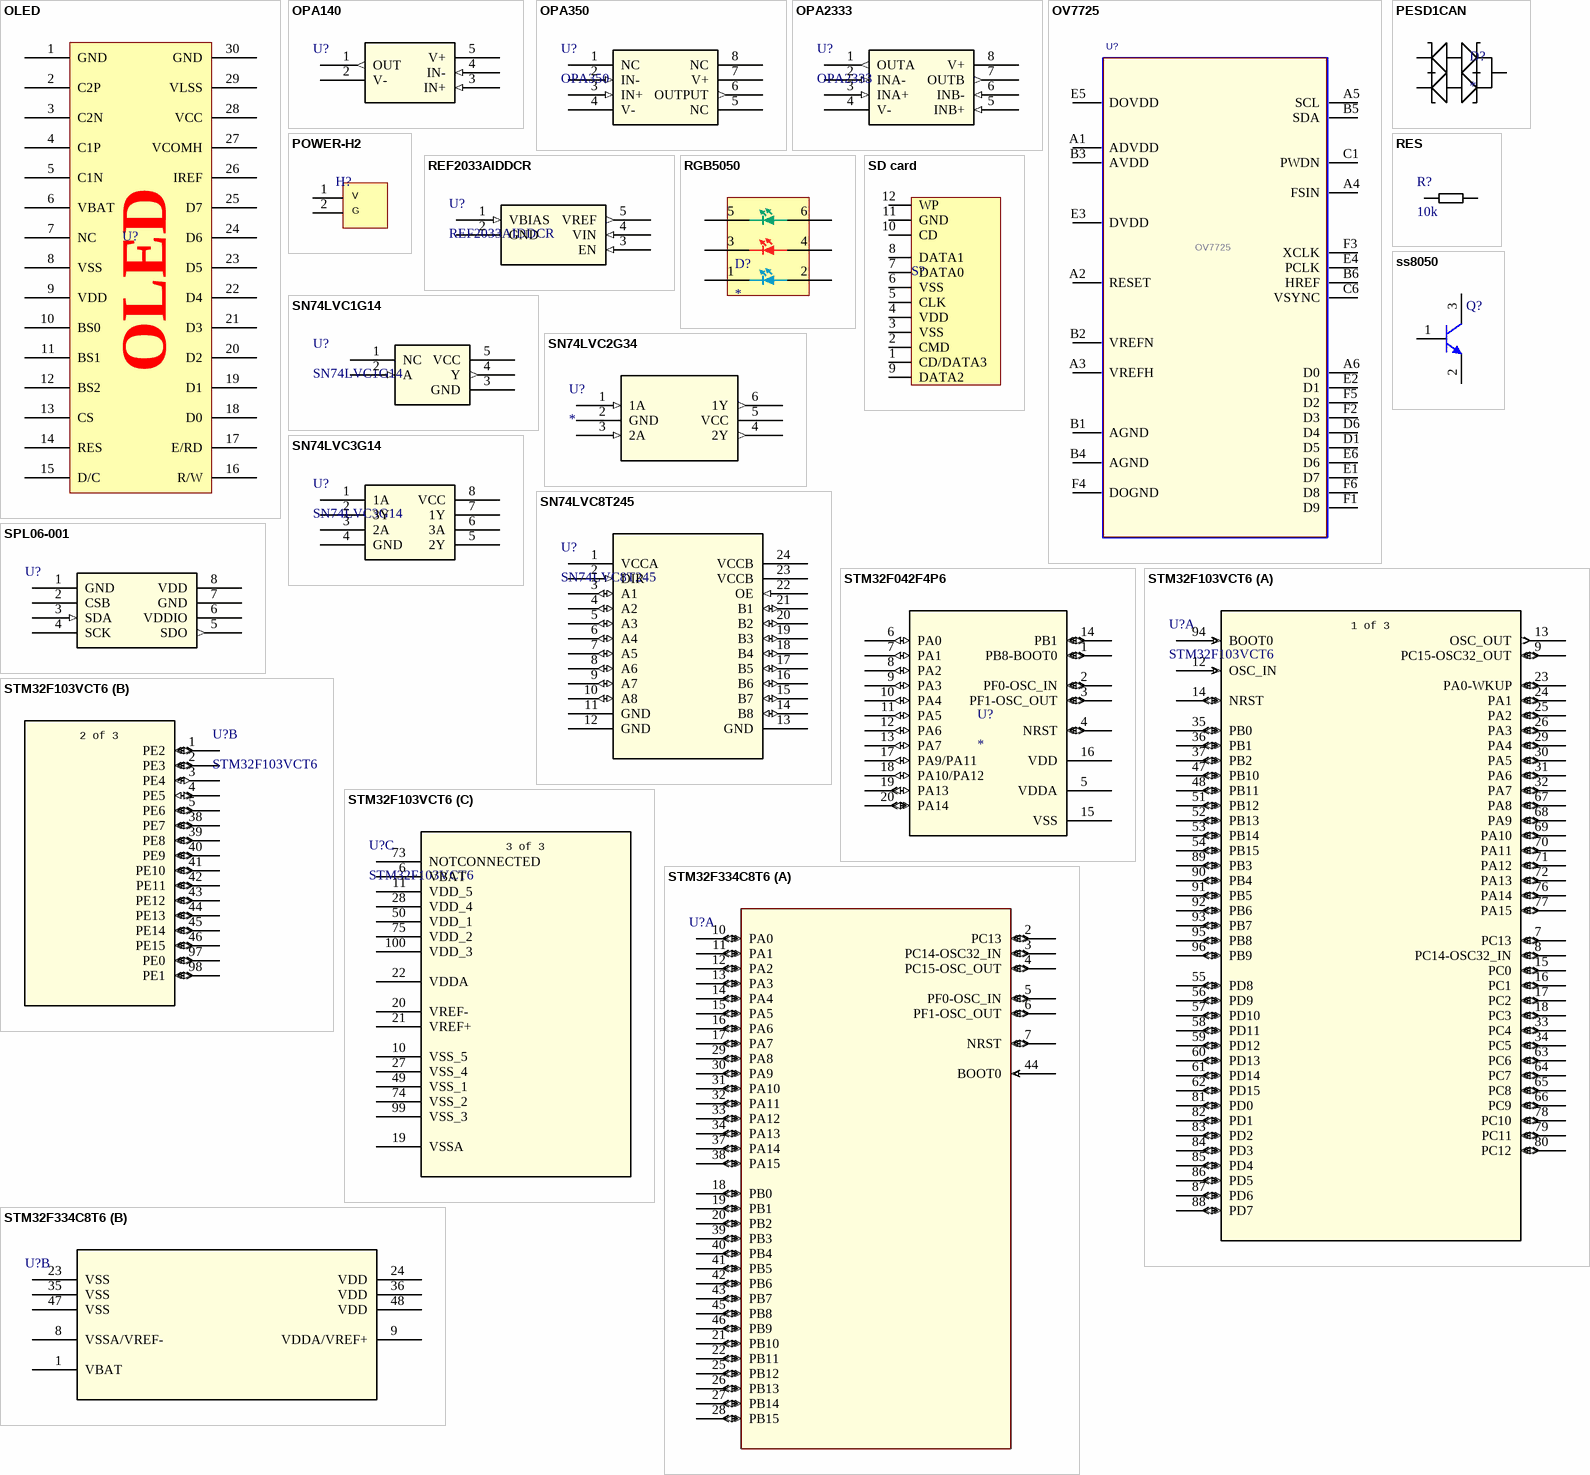
[diagram p3: symbols OLED to STM32F334C8T6]

## OLED
designator U?  (value not drawn)
footprint OLED
pins: 1 GND, 2 C2P, 3 C2N, 4 C1P, 5 C1N, 6 VBAT, 7 NC, 8 VSS, 9 VDD, 10 BS0, 11 BS1, 12 BS2, 13 CS, 14 RES, 15 D/C, 16 R/W, 17 E/RD, 18 D0, 19 D1, 20 D2, 21 D3, 22 D4, 23 D5, 24 D6, 25 D7, 26 IREF, 27 VCOMH, 28 VCC, 29 VLSS, 30 GND

## OPA140
designator U?
11MHz 单电源、低噪声、精密轨至轨输出 JFET 放大器; Manufacturer: Texas Instruments; Manufacturer_Part_Number: OPA140AIDBVR; Built_By: EMA_UL_Team; Vendor: Texas Instruments; Copyright: Copyright (C) 2018 Accelerated Designs. All rights reserved; RefDes: RefDes; Type: DEV; Value: Value
footprint SOT-23-5
pins: 1 OUT (out), 2 V- (power), 3 IN+ (in), 4 IN- (in), 5 V+ (power)

## OPA350
designator U?
单电源轨至轨运算放大器; Manufacturer_Part_Number: OPA350UA; Vendor: Texas Instruments; Built_By: EMA_UL_Team; Copyright: Copyright (C) 2018 Accelerated Designs. All rights reserved; RefDes: RefDes; Type: DEV; Value: Value
footprint SOIC-8 (3mm)
footprint VSSOP-8
pins: 1 NC, 2 IN- (in), 3 IN+ (in), 4 V- (power), 5 NC, 6 OUTPUT (out), 7 V+ (power), 8 NC

## OPA2333
designator U?
Manufacturer: Texas Instruments; GENERIC_PART_NUMBER: OPA2333-HT; Manufacturer_Part_Number: OPA2333SJD; INDUSTRY_STD_PKG_TYPE: CDIP SB; FAMILY_NAME: LOW OFFSET VOLTAGE; PIN_COUNT: 8; PACKAGE_DESIGNATOR: JD; Datasheet_URL: http://www.ti.com/lit/gpn/OPA2333-HT; Vendor: Texas Instruments; Copyright: Copyright (C) 2018 Accelerated Designs. All rights reserved; RefDes: RefDes; Type: DEV
footprint MSOP-8
footprint SOIC-8 (3mm)
pins: 1 OUTA (out), 2 INA- (in), 3 INA+ (in), 4 V- (power), 5 INB+ (in), 6 INB- (in), 7 OUTB (out), 8 V+ (power)

## OV7725
designator U?  value OV7725
CMOS图像传感器; Manufacture 1: OV; Assembly: SMD; PCB DECAL: OV7725_CSP2_FIRE; Manufacture 1 P/N: OV7725
footprint CSP2-28
pins: A1 ADVDD, A2 RESET, A3 VREFH, A4 FSIN, A5 SCL, A6 D0, B1 AGND, B2 VREFN, B3 AVDD, B4 AGND, B5 SDA, B6 HREF, C1 PWDN, C6 VSYNC, D1 D5, D6 D4, E1 D7, E2 D1, E3 DVDD, E4 PCLK, E5 DOVDD, E6 D6, F1 D9, F2 D3, F3 XCLK, F4 DOGND, F5 D2, F6 D8

## PESD1CAN
designator D?
CAN线ESD保护
footprint SOT-23-3
pins: 1, 2, 3

## POWER-H2
designator H?  (value not drawn)
功率插座
footprint XT30UPB-F
footprint XT30UPB-M
footprint XT60PB-M
footprint XT60PW-F
footprint 8.4mm间距接线柱
footprint 9.5mm 接线座
footprint XT60PW-M
footprint XT30PW-F
pins: 1, 2
text: V; G

## REF2033AIDDCR
designator U?
3.3V 1.65V基准; Vendor: Texas Instruments; Built_By: EMA_UL_Team; Manufacturer_Part_Number: REF2033AIDDCR; Copyright: Copyright (C) 2018 Accelerated Designs. All rights reserved; RefDes: RefDes; Type: DEV; Value: Value
footprint SOT-23-5
pins: 1 VBIAS (in), 2 GND (power), 3 EN (in), 4 VIN (in), 5 VREF (out)

## RES
designator R?, comment 10k
电阻; Manufacturer_Part_Number: ERJ-6GEYJ335V; Vendor: Panasonic; Built_By: EMA_UL_Team; Copyright: Copyright (C) 2018 Accelerated Designs. All rights reserved; RefDes: RefDes; Type: DEV; Value: Value
footprint R0805
footprint R0603
footprint R1206
footprint R2010
footprint R0402
pins: 1, 2

## RGB5050
designator D?
footprint RGB5050
pins: 1 G, 2 G, 3 G, 4 G, 5 G, 6 R

## SD card
designator S?  (value not drawn)
footprint SDcard
pins: 1 CD/DATA3, 2 CMD, 3 VSS, 4 VDD, 5 CLK, 6 VSS, 7 DATA0, 8 DATA1, 9 DATA2, 10 CD, 11 GND, 12 WP

## SN74LVC1G14
designator U?
施密特反相器; Manufacturer: Texas Instruments; Manufacturer_Part_Number: SN74LVC1G14DBVR; Built_By: EMA_UL_Team; Vendor: Texas Instruments; Copyright: Copyright (C) 2018 Accelerated Designs. All rights reserved; RefDes: RefDes; Type: DEV; Value: Value
footprint SOT-23-5
pins: 1 NC, 2 A (in), 3 GND (power), 4 Y (out), 5 VCC (power)

## SN74LVC2G34
designator U?
缓冲器; Manufacturer: Texas Instruments; GENERIC_PART_NUMBER: SN74LVC2G34; Manufacturer_Part_Number: sn74lvc2g34_dbv_6; INDUSTRY_STD_PKG_TYPE: SOT-23; FAMILY_NAME: LL BUFFER GATE; PIN_COUNT: 6; PACKAGE_DESIGNATOR: DBV; Datasheet_URL: http://www.ti.com/lit/gpn/SN74LVC2G34; Vendor: Texas Instruments; Value: Value; Type: Type; RefDes: RefDes
footprint SOT-23-6
pins: 1 1A (in), 2 GND (power), 3 2A (in), 4 2Y (out), 5 VCC (power), 6 1Y (out)

## SN74LVC3G14
designator U?
施密特反相器; Manufacturer: Texas Instruments; Manufacturer_Part_Number: sn74lvc3g14_yzp_8; INDUSTRY_STD_PKG_TYPE: DSBGA; FAMILY_NAME: LL INVERTER; PIN_COUNT: 8; PACKAGE_DESIGNATOR: YZP; Datasheet_URL: http://www.ti.com/lit/gpn/SN74LVC3G14; GENERIC_PART_NUMBER: SN74LVC3G14; Vendor: Texas Instruments; Value: Value; Type: Type; RefDes: RefDes
footprint SSOP-8
pins: 1 1A, 2 3Y, 3 2A, 4 GND, 5 2Y, 6 3A, 7 1Y, 8 VCC

## SN74LVC8T245
designator U?
电压转换和三态输出的 8 位双电源总线收发器; Manufacturer: Texas Instruments; Manufacturer_Part_Number: SN74LVC8T245DBR; Built_By: EMA_UL_Team; Vendor: Texas Instruments; Copyright: Copyright (C) 2018 Accelerated Designs. All rights reserved; RefDes: RefDes; Type: DEV; Value: Value
footprint TSSOP-24
pins: 1 VCCA (power), 2 DIR (in), 3 A1 (io), 4 A2 (io), 5 A3 (io), 6 A4 (io), 7 A5 (io), 8 A6 (io), 9 A7 (io), 10 A8 (io), 11 GND (power), 12 GND (power), 13 GND (power), 14 B8 (io), 15 B7 (io), 16 B6 (io), 17 B5 (io), 18 B4 (io), 19 B3 (io), 20 B2 (io), 21 B1 (io), 22 OE (in), 23 VCCB (power), 24 VCCB (power)

## SPL06-001
designator U?
气压传感器; Manufacturer_Part_Number: ISO7720FQDQ1; Vendor: Texas Instruments; Built_By: EMA_Jessica; Copyright: Copyright (C) 2018 Accelerated Designs. All rights reserved; RefDes: RefDes; Type: DEV; Value: Value
footprint LGA-8 2*2.5
pins: 1 GND (power), 2 CSB, 3 SDA (in), 4 SCK, 5 SDO (out), 6 VDDIO (power), 7 GND (power), 8 VDD (power)

## ss8050
designator Q?
NPN三极管; Published: 17-Sep-2003; LatestRevisionDate: 12-Dec-2006; LatestRevisionNote: IPC-7351 Footprint Added.; DatasheetVersion: 8-Apr-1999; PackageVersion: Aug-2001; PackageReference: SOT223; Publisher: Altium Limited; PackageDescription: 4-Pin SOT-223 Package 2.3 mm Pitch, 7 mm Lead Span; ComponentLink1Description: Manufacturer Link; ComponentLink1URL: http://www.semiconductors.philips.com/; ComponentLink2Description: Datasheet; ComponentLink2URL: http://www.semiconductors.philips.com/acrobat/datasheets/BCP68_4.pdf
footprint SOT-23-3
pins: 1 B, 2 E, 3 C

## STM32F042F4P6
designator U?
Manufacturer_Part_Number: stm32f042fxp; Vendor: STMicroelectronics; C: Copyright (C) 2016 Accelerated Designs. All rights reserved; Copyright: Copyright (C) 2016 Accelerated Designs. All rights reserved; Value: Value; Type: Type; RefDes: RefDes
footprint TSSOP-20
pins: 1 PB8-BOOT0 (io), 2 PF0-OSC_IN (io), 3 PF1-OSC_OUT (io), 4 NRST (io), 5 VDDA (power), 6 PA0 (io), 7 PA1 (io), 8 PA2 (io), 9 PA3 (io), 10 PA4 (io), 11 PA5 (io), 12 PA6 (io), 13 PA7 (io), 14 PB1 (io), 15 VSS (power), 16 VDD (power), 17 PA9/PA11 (io), 18 PA10/PA12 (io), 19 PA13 (io), 20 PA14 (io)

## STM32F103VCT6
designator U?
SourceLibrary: Updates_to_database_2020-10-19; Built_By: EMA_UL_Team; Vendor: STMicroelectronics; Copyright: Copyright (C) 2018 Accelerated Designs. All rights reserved; Manufacturer_Part_Number: STM32F103VCT6; RefDes: RefDes; Type: DEV
footprint LQFP-100
part A pins: 7 PC13 (io), 8 PC14-OSC32_IN (io), 9 PC15-OSC32_OUT (io), 12 OSC_IN (in), 13 OSC_OUT (out), 14 NRST (io), 15 PC0 (io), 16 PC1 (io), 17 PC2 (io), 18 PC3 (io), 23 PA0-WKUP (io), 24 PA1 (io), 25 PA2 (io), 26 PA3 (io), 29 PA4 (io), 30 PA5 (io), 31 PA6 (io), 32 PA7 (io), 33 PC4 (io), 34 PC5 (io), 35 PB0 (io), 36 PB1 (io), 37 PB2 (io), 47 PB10 (io), 48 PB11 (io), 51 PB12 (io), 52 PB13 (io), 53 PB14 (io), 54 PB15 (io), 55 PD8 (io), 56 PD9 (io), 57 PD10 (io), 58 PD11 (io), 59 PD12 (io), 60 PD13 (io), 61 PD14 (io), 62 PD15 (io), 63 PC6 (io), 64 PC7 (io), 65 PC8 (io), 66 PC9 (io), 67 PA8 (io), 68 PA9 (io), 69 PA10 (io), 70 PA11 (io), 71 PA12 (io), 72 PA13 (io), 76 PA14 (io), 77 PA15 (io), 78 PC10 (io), 79 PC11 (io), 80 PC12 (io), 81 PD0 (io), 82 PD1 (io), 83 PD2 (io), 84 PD3 (io), 85 PD4 (io), 86 PD5 (io), 87 PD6 (io), 88 PD7 (io), 89 PB3 (io), 90 PB4 (io), 91 PB5 (io), 92 PB6 (io), 93 PB7 (io), 94 BOOT0 (in), 95 PB8 (io), 96 PB9 (io)
part B pins: 1 PE2 (io), 2 PE3 (io), 3 PE4 (io), 4 PE5 (io), 5 PE6 (io), 38 PE7 (io), 39 PE8 (io), 40 PE9 (io), 41 PE10 (io), 42 PE11 (io), 43 PE12 (io), 44 PE13 (io), 45 PE14 (io), 46 PE15 (io), 97 PE0 (io), 98 PE1 (io)
part C pins: 6 VBAT (power), 10 VSS_5 (power), 11 VDD_5 (power), 19 VSSA (power), 20 VREF- (power), 21 VREF+ (power), 22 VDDA (power), 27 VSS_4 (power), 28 VDD_4 (power), 49 VSS_1 (power), 50 VDD_1 (power), 73 NOTCONNECTED, 74 VSS_2 (power), 75 VDD_2 (power), 99 VSS_3 (power), 100 VDD_3 (power)
part A text: 1 of 3
part B text: 2 of 3
part C text: 3 of 3

## STM32F334C8T6
designator U?
Manufacturer_Part_Number: stm32f303_334c3; Vendor: STMicroelectronics; C: Copyright (C) 2016 Accelerated Designs. All rights reserved; Copyright: Copyright (C) 2016 Accelerated Designs. All rights reserved; RefDes: RefDes; Type: Type; Value: Value
footprint LQFP-48
part A pins: 2 PC13 (io), 3 PC14-OSC32_IN (io), 4 PC15-OSC_OUT (io), 5 PF0-OSC_IN (io), 6 PF1-OSC_OUT (io), 7 NRST (io), 10 PA0 (io), 11 PA1 (io), 12 PA2 (io), 13 PA3 (io), 14 PA4 (io), 15 PA5 (io), 16 PA6 (io), 17 PA7 (io), 18 PB0 (io), 19 PB1 (io), 20 PB2 (io), 21 PB10 (io), 22 PB11 (io), 25 PB12 (io), 26 PB13 (io), 27 PB14 (io), 28 PB15 (io), 29 PA8 (io), 30 PA9 (io), 31 PA10 (io), 32 PA11 (io), 33 PA12 (io), 34 PA13 (io), 37 PA14 (io), 38 PA15 (io), 39 PB3 (io), 40 PB4 (io), 41 PB5 (io), 42 PB6 (io), 43 PB7 (io), 44 BOOT0 (in), 45 PB8 (io), 46 PB9 (io)
part B pins: 1 VBAT (power), 8 VSSA/VREF- (power), 9 VDDA/VREF+ (power), 23 VSS (power), 24 VDD (power), 35 VSS (power), 36 VDD (power), 47 VSS (power), 48 VDD (power)

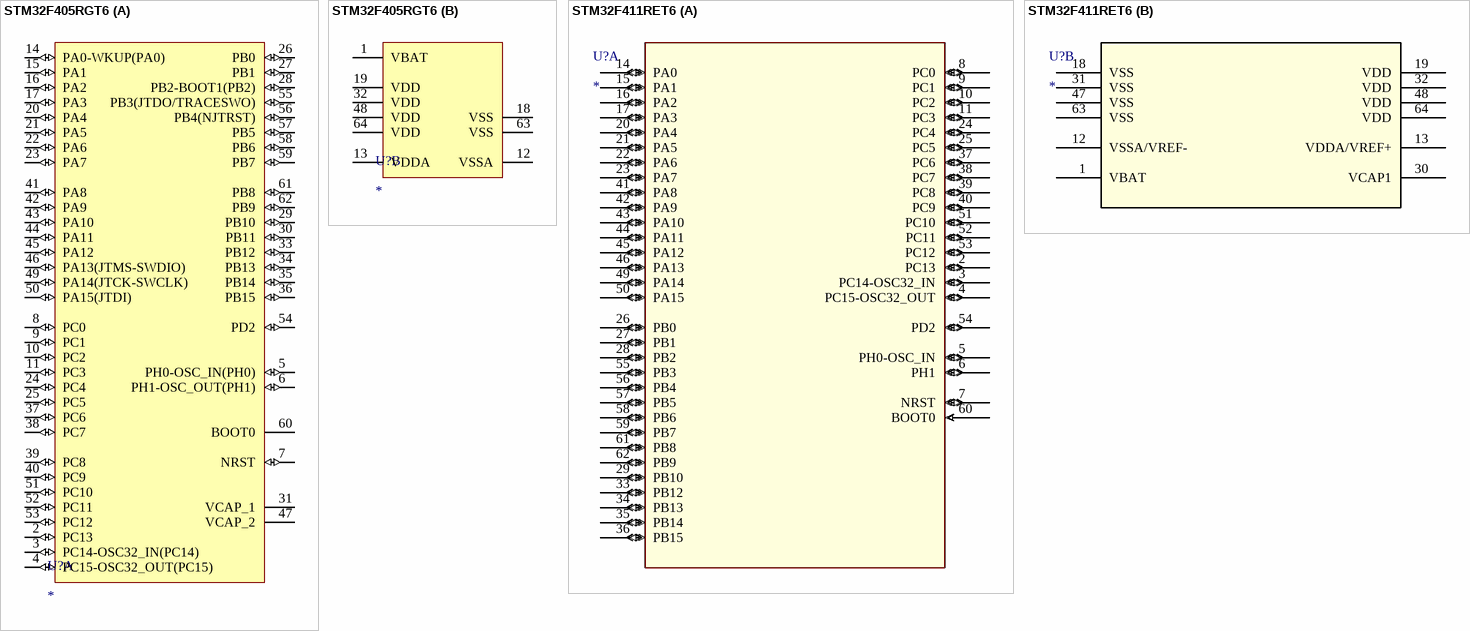
[diagram p4: symbols STM32F405RGT6 to STM32F411RET6]

## STM32F405RGT6
designator U?
footprint LQFP-64
part A pins: 2 PC13 (io) "PC13/EVENTOUT/RTC_OUT,RTC_TAMP1,RTC_TS", 3 PC14-OSC32_IN(PC14) (io) "PC14-OSC32_IN(PC14)/EVENTOUT/OSC32_IN", 4 PC15-OSC32_OUT(PC15) (io) "PC15-OSC32_OUT(PC15)/EVENTOUT/OSC32_OUT", 5 PH0-OSC_IN(PH0) (io) "PH0-OSC_IN(PH0)/EVENTOUT/OSC_IN", 6 PH1-OSC_OUT(PH1) (io) "PH1-OSC_OUT(PH1)/EVENTOUT/OSC_OUT", 7 NRST (io), 8 PC0 (io) "PC0/OTG_HS_ULPI_STP/EVENTOUT/ADC123_IN10", 9 PC1 (io) "PC1/ETH_MDC/EVENTOUT/ADC123_IN11", 10 PC2 (io) "PC2/SPI2_MISO/OTG_HS_ULPI_DIR/ETH_MII_TXD2/I2S2ext_SD/EVENTOUT/ADC123_IN12", 11 PC3 (io) "PC3/SPI2_MOSI/I2S2_SD/OTG_HS_ULPI_NXT/ETH_MII_TX_CLK/EVENTOUT/ADC123_IN13", 14 PA0-WKUP(PA0) (io) "PA0-WKUP(PA0)/USART2_CTS/UART4_TX/ETH_MII_CRS/TIM2_CH1_ETR/TIM5_CH1/TIM8_ETR/EVENTOUT/ADC123_IN0/WKUP", 15 PA1 (io) "PA1/USART2_RTS/UART4_RX/ETH_RMII_REF_CLK/ETH_MII_RX_CLK/TIM5_CH2/TIM2_CH2/EVENTOUT/ADC123_IN1", 16 PA2 (io) "PA2/USART2_TX/TIM5_CH3/TIM9_CH1/TIM2_CH3/ETH_MDIO/EVENTOUT/ADC123_IN2", 17 PA3 (io) "PA3/USART2_RX/TIM5_CH4/TIM9_CH2/TIM2_CH4/OTG_HS_ULPI_D0/ETH_MII_COL/EVENTOUT/ADC123_IN3", 20 PA4 (io) "PA4/SPI1_NSS/SPI3_NSS/USART2_CK/DCMI_HSYNC/OTG_HS_SOF/I2S3_WS/EVENTOUT/ADC12_IN4/DAC_OUT1", 21 PA5 (io) "PA5/SPI1_SCK/OTG_HS_ULPI_CK/TIM2_CH1_ETR/TIM8_CH1N/EVENTOUT/ADC12_IN5/DAC_OUT2", 22 PA6 (io) "PA6/SPI1_MISO/TIM8_BKIN/TIM13_CH1/DCMI_PIXCLK/TIM3_CH1/TIM1_BKIN/EVENTOUT/ADC12_IN6", 23 PA7 (io) "PA7/SPI1_MOSI/TIM8_CH1N/TIM14_CH1/TIM3_CH2/ETH_MII_RX_DV/TIM1_CH1N/ETH_RMII_CRS_DV/EVENTOUT/ADC12_IN7", 24 PC4 (io) "PC4/ETH_RMII_RX_D0/ETH_MII_RX_D0/EVENTOUT/ADC12_IN14", 25 PC5 (io) "PC5/ETH_RMII_RX_D1/ETH_MII_RX_D1/EVENTOUT/ADC12_IN15", 26 PB0 (io) "PB0/TIM3_CH3/TIM8_CH2N/OTG_HS_ULPI_D1/ETH_MII_RXD2/TIM1_CH2N/EVENTOUT/ADC12_IN8", 27 PB1 (io) "PB1/TIM3_CH4/TIM8_CH3N/OTG_HS_ULPI_D2/ETH_MII_RXD3/TIM1_CH3N/EVENTOUT/ADC12_IN9", 28 PB2-BOOT1(PB2) (io) "PB2-BOOT1(PB2)/EVENTOUT", 29 PB10 (io) "PB10/SPI2_SCK/I2S2_CK/I2C2_SCL/USART3_TX/OTG_HS_ULPI_D3/ETH_MII_RX_ER/TIM2_CH3/EVENTOUT", 30 PB11 (io) "PB11/I2C2_SDA/USART3_RX/OTG_HS_ULPI_D4/ETH_RMII_TX_EN/ETH_MII_TX_EN/TIM2_CH4/EVENTOUT", 31 VCAP_1 (power), 33 PB12 (io) "PB12/SPI2_NSS/I2S2_WS/I2C2_SMBA/USART3_CK/TIM1_BKIN/CAN2_RX/OTG_HS_ULPI_D5/ETH_RMII_TXD0/ETH_MII_TXD0/OTG_HS_ID/EVENTOUT", 34 PB13 (io) "PB13/SPI2_SCK/I2S2_CK/USART3_CTS/TIM1_CH1N/CAN2_TX/OTG_HS_ULPI_D6/ETH_RMII_TXD1/ETH_MII_TXD1/EVENTOUT/OTG_HS_VBUS", 35 PB14 (io) "PB14/SPI2_MISO/TIM1_CH2N/TIM12_CH1/OTG_HS_DM/USART3_RTS/TIM8_CH2N/I2S2ext_SD/EVENTOUT", 36 PB15 (io) "PB15/SPI2_MOSI/I2S2_SD/TIM1_CH3N/TIM8_CH3N/TIM12_CH2/OTG_HS_DP/EVENTOUT/RTC_REFIN", 37 PC6 (io) "PC6/I2S2_MCK/TIM8_CH1/SDIO_D6/USART6_TX/DCMI_D0/TIM3_CH1/EVENTOUT", 38 PC7 (io) "PC7/I2S3_MCK/TIM8_CH2/SDIO_D7/USART6_RX/DCMI_D1/TIM3_CH2/EVENTOUT", 39 PC8 (io) "PC8/TIM8_CH3/SDIO_D0/TIM3_CH3/USART6_CK/DCMI_D2/EVENTOUT", 40 PC9 (io) "PC9/I2S_CKIN/MCO2/TIM8_CH4/SDIO_D1/I2C3_SDA/DCMI_D3/TIM3_CH4/EVENTOUT", 41 PA8 (io) "PA8/MCO1/USART1_CK/TIM1_CH1/I2C3_SCL/OTG_FS_SOF/EVENTOUT", 42 PA9 (io) "PA9/USART1_TX/TIM1_CH2/I2C3_SMBA/DCMI_D0/EVENTOUT/OTG_FS_VBUS", 43 PA10 (io) "PA10/USART1_RX/TIM1_CH3/OTG_FS_ID/DCMI_D1/EVENTOUT", 44 PA11 (io) "PA11/USART1_CTS/CAN1_RX/TIM1_CH4/OTG_FS_DM/EVENTOUT", 45 PA12 (io) "PA12/USART1_RTS/CAN1_TX/TIM1_ETR/OTG_FS_DP/EVENTOUT", 46 PA13(JTMS-SWDIO) (io) "PA13(JTMS-SWDIO)/JTMS-SWDIO/EVENTOUT", 47 VCAP_2 (power), 49 PA14(JTCK-SWCLK) (io) "PA14(JTCK-SWCLK)/JTCK-SWCLK/EVENTOUT", 50 PA15(JTDI) (io) "PA15(JTDI)/JTDI/SPI3_NSS/I2S3_WS/TIM2_CH1_ETR/SPI1_NSS/EVENTOUT", 51 PC10 (io) "PC10/SPI3_SCK/I2S3_CK/UART4_TX/SDIO_D2/DCMI_D8/USART3_TX/EVENTOUT", 52 PC11 (io) "PC11/UART4_RX/SPI3_MISO/SDIO_D3/DCMI_D4/USART3_RX/I2S3ext_SD/EVENTOUT", 53 PC12 (io) "PC12/UART5_TX/SDIO_CK/DCMI_D9/SPI3_MOSI/I2S3_SD/USART3_CK/EVENTOUT", 54 PD2 (io) "PD2/TIM3_ETR/UART5_RX/SDIO_CMD/DCMI_D11/EVENTOUT", 55 PB3(JTDO/TRACESWO) (io) "PB3(JTDO/TRACESWO)/JTDO/TRACESWO/SPI3_SCK/I2S3_CK/TIM2_CH2/SPI1_SCK/EVENTOUT", 56 PB4(NJTRST) (io) "PB4(NJTRST)/NJTRST/SPI3_MISO/TIM3_CH1/SPI1_MISO/I2S3ext_SD/EVENTOUT", 57 PB5 (io) "PB5/I2C1_SMBA/CAN2_RX/OTG_HS_ULPI_D7/ETH_PPS_OUT/TIM3_CH2/SPI1_MOSI/SPI3_MOSI/DCMI_D10/I2S3_SD/EVENTOUT", 58 PB6 (io) "PB6/I2C1_SCL/TIM4_CH1/CAN2_TX/DCMI_D5/USART1_TX/EVENTOUT", 59 PB7 (io) "PB7/I2C1_SDA/FSMC_NL/DCMI_VSYNC/USART1_RX/TIM4_CH2/EVENTOUT", 60 BOOT0 "BOOT0/VPP", 61 PB8 (io) "PB8/TIM4_CH3/SDIO_D4/TIM10_CH1/DCMI_D6/ETH_MII_TXD3/I2C1_SCL/CAN1_RX/EVENTOUT", 62 PB9 (io) "PB9/SPI2_NSS/I2S2_WS/TIM4_CH4/TIM11_CH1/SDIO_D5/DCMI_D7/I2C1_SDA/CAN1_TX/EVENTOUT"
part B pins: 1 VBAT (power), 12 VSSA (power), 13 VDDA (power), 18 VSS (power), 19 VDD (power), 32 VDD (power), 48 VDD (power), 63 VSS (power), 64 VDD (power)

## STM32F411RET6
designator U?
Manufacturer_Part_Number: stm32f4x1r1; Vendor: STMicroelectronics; C: Copyright (C) 2016 Accelerated Designs. All rights reserved; Copyright: Copyright (C) 2016 Accelerated Designs. All rights reserved; RefDes: RefDes; Type: Type; Value: Value
footprint LQFP-64
part A pins: 2 PC13 (io), 3 PC14-OSC32_IN (io), 4 PC15-OSC32_OUT (io), 5 PH0-OSC_IN (io), 6 PH1 (io), 7 NRST (io), 8 PC0 (io), 9 PC1 (io), 10 PC2 (io), 11 PC3 (io), 14 PA0 (io), 15 PA1 (io), 16 PA2 (io), 17 PA3 (io), 20 PA4 (io), 21 PA5 (io), 22 PA6 (io), 23 PA7 (io), 24 PC4 (io), 25 PC5 (io), 26 PB0 (io), 27 PB1 (io), 28 PB2 (io), 29 PB10 (io), 33 PB12 (io), 34 PB13 (io), 35 PB14 (io), 36 PB15 (io), 37 PC6 (io), 38 PC7 (io), 39 PC8 (io), 40 PC9 (io), 41 PA8 (io), 42 PA9 (io), 43 PA10 (io), 44 PA11 (io), 45 PA12 (io), 46 PA13 (io), 49 PA14 (io), 50 PA15 (io), 51 PC10 (io), 52 PC11 (io), 53 PC12 (io), 54 PD2 (io), 55 PB3 (io), 56 PB4 (io), 57 PB5 (io), 58 PB6 (io), 59 PB7 (io), 60 BOOT0 (in), 61 PB8 (io), 62 PB9 (io)
part B pins: 1 VBAT (power), 12 VSSA/VREF- (power), 13 VDDA/VREF+ (power), 18 VSS (power), 19 VDD (power), 30 VCAP1 (power), 31 VSS (power), 32 VDD (power), 47 VSS (power), 48 VDD (power), 63 VSS (power), 64 VDD (power)

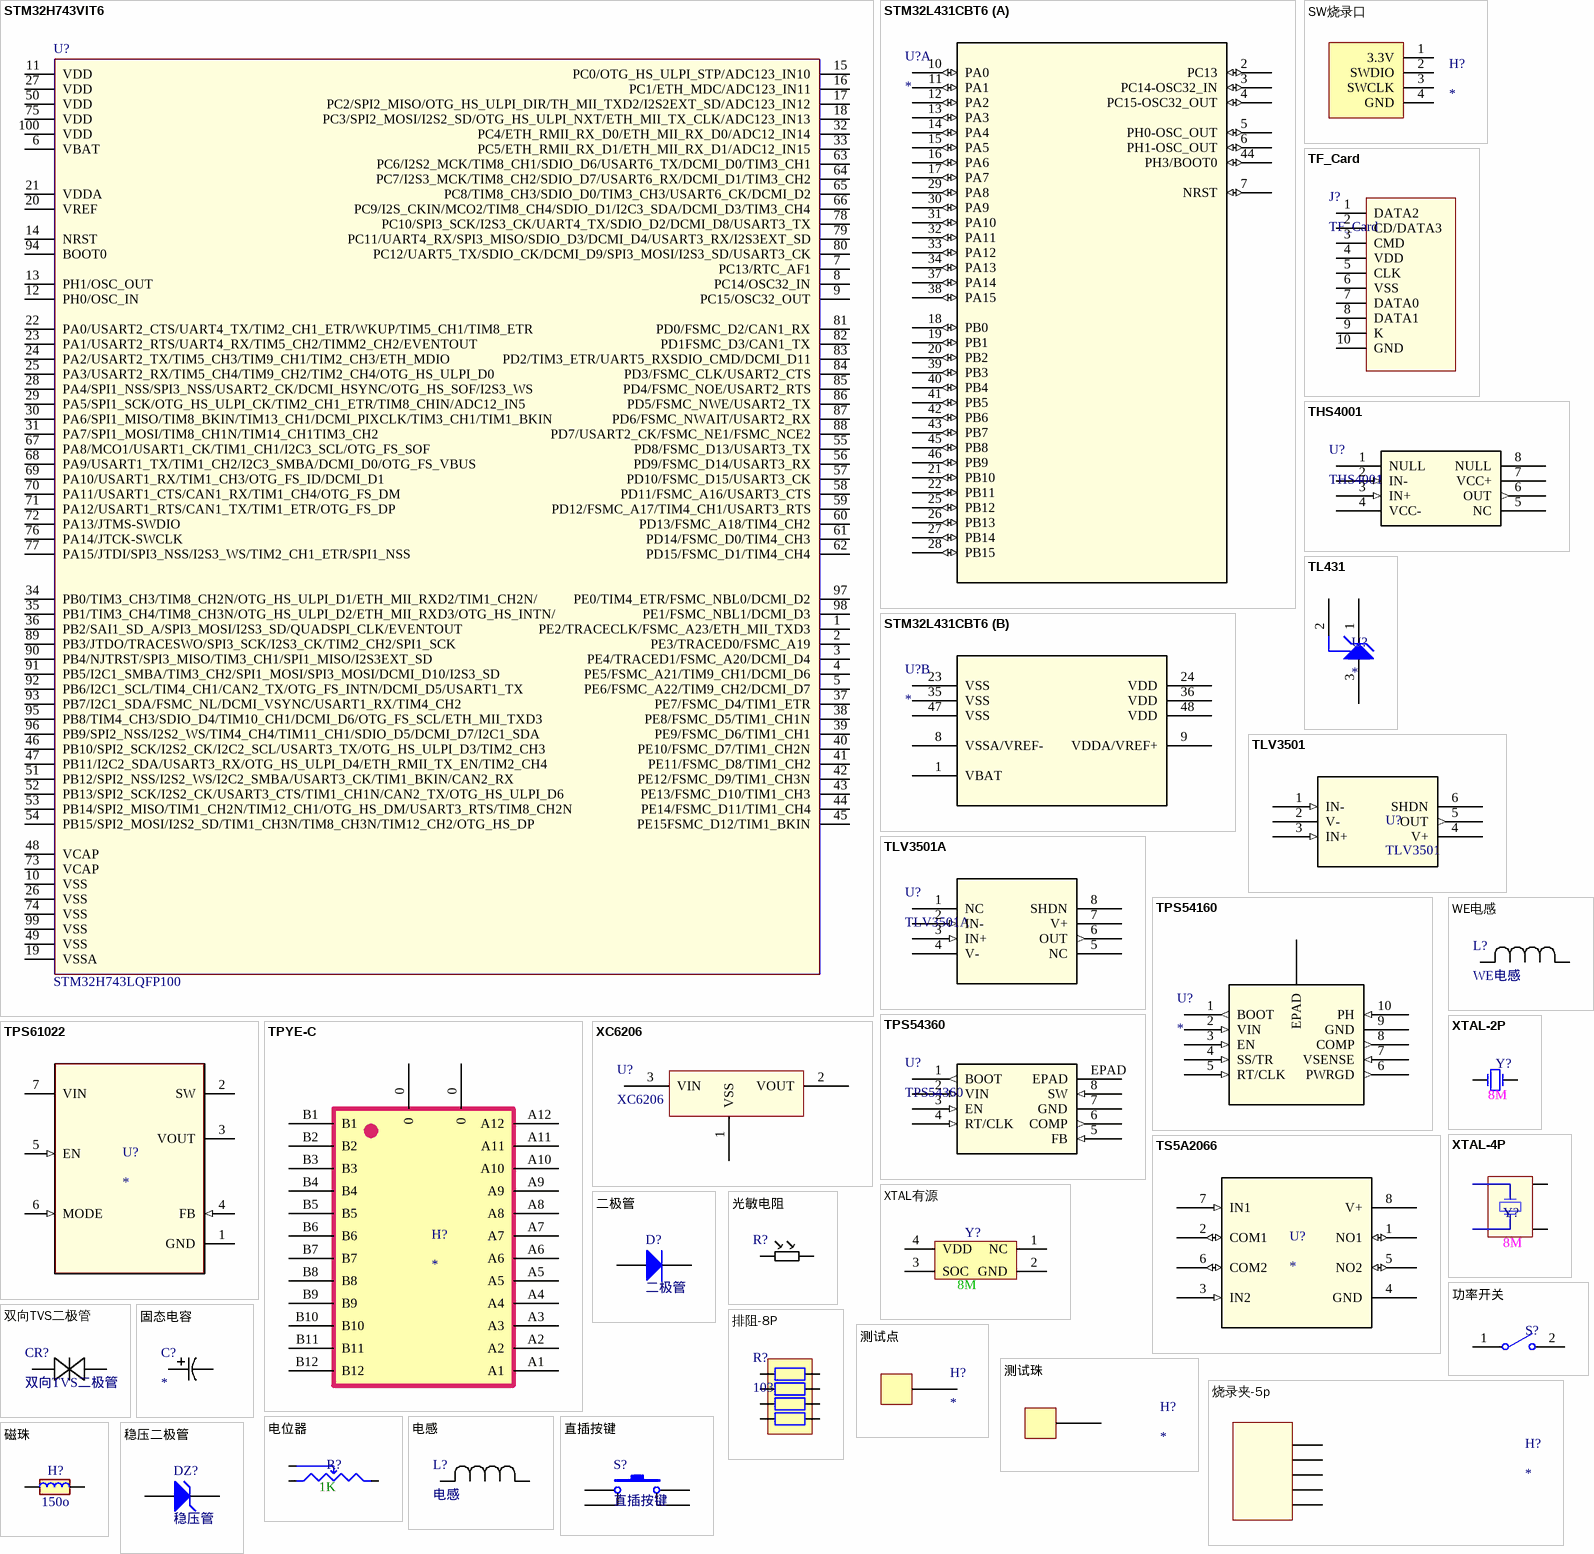
[diagram p5: symbols STM32H743VIT6 to 稳压二极管]

## STM32H743VIT6
designator U?, comment STM32H743LQFP100
footprint LQFP-100
pins: 1 PE2/TRACECLK/FSMC_A23/ETH_MII_TXD3, 2 PE3/TRACED0/FSMC_A19, 3 PE4/TRACED1/FSMC_A20/DCMI_D4, 4 PE5/FSMC_A21/TIM9_CH1/DCMI_D6, 5 PE6/FSMC_A22/TIM9_CH2/DCMI_D7, 6 VBAT, 7 PC13/RTC_AF1, 8 PC14/OSC32_IN, 9 PC15/OSC32_OUT, 10 VSS, 11 VDD, 12 PH0/OSC_IN, 13 PH1/OSC_OUT, 14 NRST, 15 PC0/OTG_HS_ULPI_STP/ADC123_IN10, 16 PC1/ETH_MDC/ADC123_IN11, 17 PC2/SPI2_MISO/OTG_HS_ULPI_DIR/TH_MII_TXD2/I2S2EXT_SD/ADC123_IN12, 18 PC3/SPI2_MOSI/I2S2_SD/OTG_HS_ULPI_NXT/ETH_MII_TX_CLK/ADC123_IN13, 19 VSSA, 20 VREF, 21 VDDA, 22 PA0/USART2_CTS/UART4_TX/TIM2_CH1_ETR/WKUP/TIM5_CH1/TIM8_ETR, 23 PA1/USART2_RTS/UART4_RX/TIM5_CH2/TIMM2_CH2/EVENTOUT, 24 PA2/USART2_TX/TIM5_CH3/TIM9_CH1/TIM2_CH3/ETH_MDIO, 25 PA3/USART2_RX/TIM5_CH4/TIM9_CH2/TIM2_CH4/OTG_HS_ULPI_D0, 26 VSS, 27 VDD, 28 PA4/SPI1_NSS/SPI3_NSS/USART2_CK/DCMI_HSYNC/OTG_HS_SOF/I2S3_WS, 29 PA5/SPI1_SCK/OTG_HS_ULPI_CK/TIM2_CH1_ETR/TIM8_CHIN/ADC12_IN5, 30 PA6/SPI1_MISO/TIM8_BKIN/TIM13_CH1/DCMI_PIXCLK/TIM3_CH1/TIM1_BKIN, 31 PA7/SPI1_MOSI/TIM8_CH1N/TIM14_CH1TIM3_CH2, 32 PC4/ETH_RMII_RX_D0/ETH_MII_RX_D0/ADC12_IN14, 33 PC5/ETH_RMII_RX_D1/ETH_MII_RX_D1/ADC12_IN15, 34 PB0/TIM3_CH3/TIM8_CH2N/OTG_HS_ULPI_D1/ETH_MII_RXD2/TIM1_CH2N/, 35 PB1/TIM3_CH4/TIM8_CH3N/OTG_HS_ULPI_D2/ETH_MII_RXD3/OTG_HS_INTN/, 36 PB2/SAI1_SD_A/SPI3_MOSI/I2S3_SD/QUADSPI_CLK/EVENTOUT, 37 PE7/FSMC_D4/TIM1_ETR, 38 PE8/FSMC_D5/TIM1_CH1N, 39 PE9/FSMC_D6/TIM1_CH1, 40 PE10/FSMC_D7/TIM1_CH2N, 41 PE11/FSMC_D8/TIM1_CH2, 42 PE12/FSMC_D9/TIM1_CH3N, 43 PE13/FSMC_D10/TIM1_CH3, 44 PE14/FSMC_D11/TIM1_CH4, 45 PE15FSMC_D12/TIM1_BKIN, 46 PB10/SPI2_SCK/I2S2_CK/I2C2_SCL/USART3_TX/OTG_HS_ULPI_D3/TIM2_CH3, 47 PB11/I2C2_SDA/USART3_RX/OTG_HS_ULPI_D4/ETH_RMII_TX_EN/TIM2_CH4, 48 VCAP, 49 VSS, 50 VDD, 51 PB12/SPI2_NSS/I2S2_WS/I2C2_SMBA/USART3_CK/TIM1_BKIN/CAN2_RX, 52 PB13/SPI2_SCK/I2S2_CK/USART3_CTS/TIM1_CH1N/CAN2_TX/OTG_HS_ULPI_D6, 53 PB14/SPI2_MISO/TIM1_CH2N/TIM12_CH1/OTG_HS_DM/USART3_RTS/TIM8_CH2N, 54 PB15/SPI2_MOSI/I2S2_SD/TIM1_CH3N/TIM8_CH3N/TIM12_CH2/OTG_HS_DP, 55 PD8/FSMC_D13/USART3_TX, 56 PD9/FSMC_D14/USART3_RX, 57 PD10/FSMC_D15/USART3_CK, 58 PD11/FSMC_A16/USART3_CTS, 59 PD12/FSMC_A17/TIM4_CH1/USART3_RTS, 60 PD13/FSMC_A18/TIM4_CH2, 61 PD14/FSMC_D0/TIM4_CH3, 62 PD15/FSMC_D1/TIM4_CH4, 63 PC6/I2S2_MCK/TIM8_CH1/SDIO_D6/USART6_TX/DCMI_D0/TIM3_CH1, 64 PC7/I2S3_MCK/TIM8_CH2/SDIO_D7/USART6_RX/DCMI_D1/TIM3_CH2, 65 PC8/TIM8_CH3/SDIO_D0/TIM3_CH3/USART6_CK/DCMI_D2, 66 PC9/I2S_CKIN/MCO2/TIM8_CH4/SDIO_D1/I2C3_SDA/DCMI_D3/TIM3_CH4, 67 PA8/MCO1/USART1_CK/TIM1_CH1/I2C3_SCL/OTG_FS_SOF, 68 PA9/USART1_TX/TIM1_CH2/I2C3_SMBA/DCMI_D0/OTG_FS_VBUS, 69 PA10/USART1_RX/TIM1_CH3/OTG_FS_ID/DCMI_D1, 70 PA11/USART1_CTS/CAN1_RX/TIM1_CH4/OTG_FS_DM, 71 PA12/USART1_RTS/CAN1_TX/TIM1_ETR/OTG_FS_DP, 72 PA13/JTMS-SWDIO, 73 VCAP, 74 VSS, 75 VDD, 76 PA14/JTCK-SWCLK, 77 PA15/JTDI/SPI3_NSS/I2S3_WS/TIM2_CH1_ETR/SPI1_NSS, 78 PC10/SPI3_SCK/I2S3_CK/UART4_TX/SDIO_D2/DCMI_D8/USART3_TX, 79 PC11/UART4_RX/SPI3_MISO/SDIO_D3/DCMI_D4/USART3_RX/I2S3EXT_SD, 80 PC12/UART5_TX/SDIO_CK/DCMI_D9/SPI3_MOSI/I2S3_SD/USART3_CK, 81 PD0/FSMC_D2/CAN1_RX, 82 PD1FSMC_D3/CAN1_TX, 83 PD2/TIM3_ETR/UART5_RXSDIO_CMD/DCMI_D11, 84 PD3/FSMC_CLK/USART2_CTS, 85 PD4/FSMC_NOE/USART2_RTS, 86 PD5/FSMC_NWE/USART2_TX, 87 PD6/FSMC_NWAIT/USART2_RX, 88 PD7/USART2_CK/FSMC_NE1/FSMC_NCE2, 89 PB3/JTDO/TRACESWO/SPI3_SCK/I2S3_CK/TIM2_CH2/SPI1_SCK, 90 PB4/NJTRST/SPI3_MISO/TIM3_CH1/SPI1_MISO/I2S3EXT_SD, 91 PB5/I2C1_SMBA/TIM3_CH2/SPI1_MOSI/SPI3_MOSI/DCMI_D10/I2S3_SD, 92 PB6/I2C1_SCL/TIM4_CH1/CAN2_TX/OTG_FS_INTN/DCMI_D5/USART1_TX, 93 PB7/I2C1_SDA/FSMC_NL/DCMI_VSYNC/USART1_RX/TIM4_CH2, 94 BOOT0, 95 PB8/TIM4_CH3/SDIO_D4/TIM10_CH1/DCMI_D6/OTG_FS_SCL/ETH_MII_TXD3, 96 PB9/SPI2_NSS/I2S2_WS/TIM4_CH4/TIM11_CH1/SDIO_D5/DCMI_D7/I2C1_SDA, 97 PE0/TIM4_ETR/FSMC_NBL0/DCMI_D2, 98 PE1/FSMC_NBL1/DCMI_D3, 99 VSS, 100 VDD

## STM32L431CBT6
designator U?
Manufacturer_Part_Number: stm32l4_lqfp48_t2; Built_By: EMA_Jessica; Vendor: STMicroelectronics; Copyright: Copyright (C) 2016 Accelerated Designs. All rights reserved; Value: Value; Type: Type; RefDes: RefDes
footprint LQFP-48
part A pins: 2 PC13 (io), 3 PC14-OSC32_IN (io), 4 PC15-OSC32_OUT (io), 5 PH0-OSC_OUT (io), 6 PH1-OSC_OUT (io), 7 NRST (io), 10 PA0 (io), 11 PA1 (io), 12 PA2 (io), 13 PA3 (io), 14 PA4 (io), 15 PA5 (io), 16 PA6 (io), 17 PA7 (io), 18 PB0 (io), 19 PB1 (io), 20 PB2 (io), 21 PB10 (io), 22 PB11 (io), 25 PB12 (io), 26 PB13 (io), 27 PB14 (io), 28 PB15 (io), 29 PA8 (io), 30 PA9 (io), 31 PA10 (io), 32 PA11 (io), 33 PA12 (io), 34 PA13 (io), 37 PA14 (io), 38 PA15 (io), 39 PB3 (io), 40 PB4 (io), 41 PB5 (io), 42 PB6 (io), 43 PB7 (io), 44 PH3/BOOT0 (io), 45 PB8 (io), 46 PB9 (io)
part B pins: 1 VBAT (power), 8 VSSA/VREF- (power), 9 VDDA/VREF+ (power), 23 VSS (power), 24 VDD (power), 35 VSS (power), 36 VDD (power), 47 VSS (power), 48 VDD (power)

## SW烧录口
designator H?
footprint SW烧录口
pins: 1 3.3V, 2 SWDIO, 3 SWCLK, 4 GND

## TF_Card
designator J?
TF卡座; 版权归属: 源创客; BOM名称: TF卡座; 学习资源: www.ooocke.com
footprint Micro SD
pins: 1 DATA2, 2 CD/DATA3, 3 CMD, 4 VDD, 5 CLK, 6 VSS, 7 DATA0, 8 DATA1, 9 K, 10 GND

## THS4001
designator U?
270MHz 电压反馈放大器; Manufacturer_Part_Number: ths4001_d_8; Vendor: Texas Instruments; PACKAGE_DESIGNATOR: D; PIN_COUNT: 8; FAMILY_NAME: VOLTAGE FEEDBACK; INDUSTRY_STD_PKG_TYPE: SOIC; GENERIC_PART_NUMBER: THS4001; Manufacturer: Texas Instruments; Datasheet_URL: http://www.ti.com/lit/gpn/THS4001; Value: Value; Type: Type; RefDes: RefDes
footprint SOIC-8 (3mm)
pins: 1 NULL, 2 IN- (in), 3 IN+ (in), 4 VCC- (power), 5 NC, 6 OUT (out), 7 VCC+ (power), 8 NULL

## TL431
designator U?
TI产的！
footprint SOT-23-3
pins: 1 C, 2 REF, 3 A